# Altium integrated library ST Microprocessor 32-Bit.IntLib: 24 symbols (part 1 of 2)
Pins are listed as number, name and electrical type; pins without a type are passive.

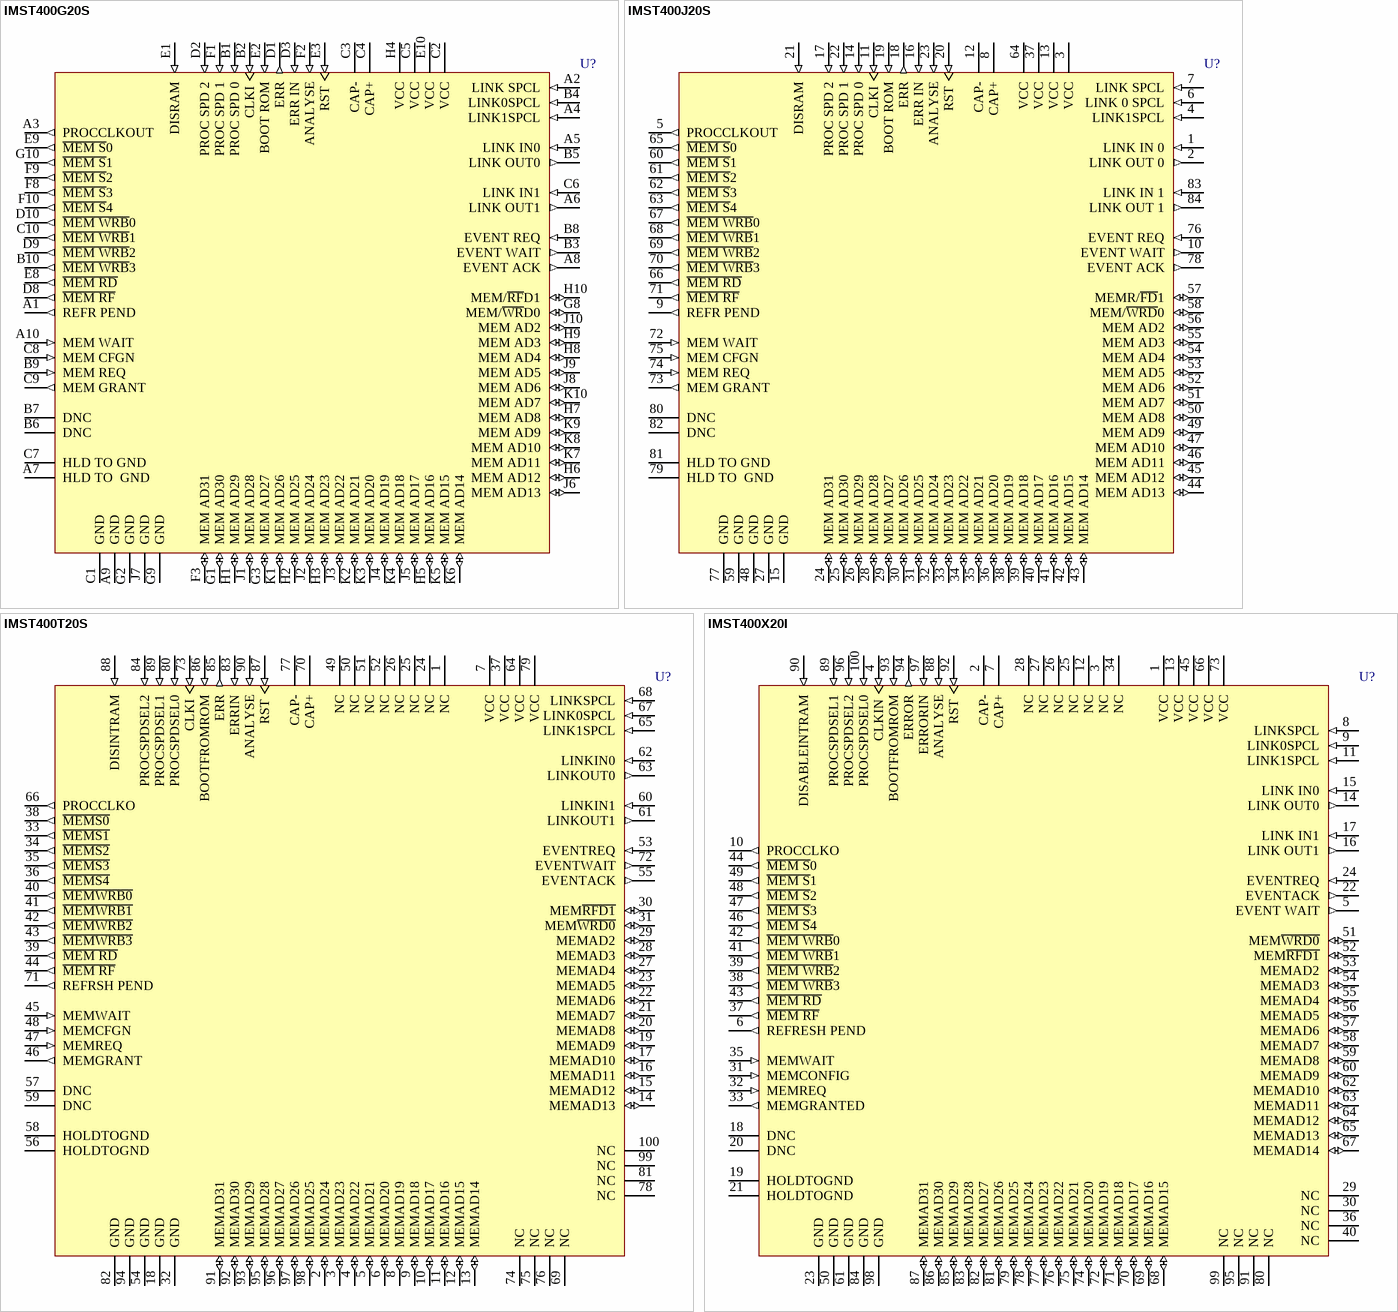
[diagram p0: symbols IMST400G20S to IMST400X20I]

## IMST400G20S
designator U?
Low Cost 32-Bit Transputer; Note: Do Not Connect pins B6 & B7.; Published: 24-Aug-2001; LatestRevisionDate: 06-Jun-2005; LatestRevisionNote: Stylized 3D Model Added.; DatasheetVersion: Jul-1995; PackageVersion: 1994; PackageReference: PGA84; Publisher: Altium Limited; PackageDescription: 84-Pin Pin Grid Array 2.54 mm Pitch; ComponentLink1Description: Manufacturer Link; ComponentLink1URL: http://www.st.com/
footprint PGA84 (PGA, 84-Leads, Body 27x27mm, Pitch 2.54mm)
3D model IMST400-PGA84 (84-Pin Pin Grid Array 2.54 mm Pitch)
pins: A1 REFR PEND (out), A2 LINK SPCL (in), A3 PROCCLKOUT (out), A4 LINK1SPCL (in), A5 LINK IN0 (in), A6 LINK OUT1 (out), A7 HLD TO  GND, A8 EVENT ACK (out), A9 GND (power), A10 MEM WAIT (in), B1 PROC SPD 0 (in), B2 CLKI (in), B3 EVENT WAIT (out), B4 LINK0SPCL (in), B5 LINK OUT0 (out), B6 DNC, B7 DNC, B8 EVENT REQ (in), B9 MEM REQ (in), B10 ~{MEM WRB}3 (out), C1 GND (power), C2 VCC (power), C3 CAP-, C4 CAP+, C5 VCC (power), C6 LINK IN1 (in), C7 HLD TO GND, C8 MEM CFGN (in), C9 MEM GRANT (out), C10 ~{MEM WRB}1 (out), D1 ERR (out), D2 PROC SPD 2 (in), D3 ERR IN (in), D8 ~{MEM RF} (out), D9 ~{MEM WRB}2 (out), D10 ~{MEM WRB}0 (out), E1 DISRAM (in), E2 BOOT ROM (in), E3 RST (in), E8 ~{MEM RD} (out), E9 ~{MEM S}0 (out), E10 VCC (power), F1 PROC SPD 1 (in), F2 ANALYSE (in), F3 MEM AD31 (io), F8 ~{MEM S}3 (out), F9 ~{MEM S}2 (out), F10 ~{MEM S}4 (out), G1 MEM AD30 (io), G2 GND (power), G3 MEM AD27 (io), G8 MEM/~{WR}D0 (io), G9 GND (power), G10 ~{MEM S}1 (out), H1 MEM AD29 (io), H2 MEM AD25 (io), H3 MEM AD23 (io), H4 VCC (power), H5 MEM AD16 (io), H6 MEM AD12 (io), H7 MEM AD8 (io), H8 MEM AD4 (io), H9 MEM AD3 (io), H10 MEM/~{RF}D1 (io), J1 MEM AD28 (io), J2 MEM AD24 (io), J3 MEM AD22 (io), J4 MEM AD19 (io), J5 MEM AD17 (io), J6 MEM AD13 (io), J7 GND (power), J8 MEM AD6 (io), J9 MEM AD5 (io), J10 MEM AD2 (io), K1 MEM AD26 (io), K2 MEM AD21 (io), K3 MEM AD20 (io), K4 MEM AD18 (io), K5 MEM AD15 (io), K6 MEM AD14 (io), K7 MEM AD11 (io), K8 MEM AD10 (io), K9 MEM AD9 (io), K10 MEM AD7 (io)

## IMST400J20S
designator U?
Low Cost 32-Bit Transputer; Note: Do Not Connect pins 80 & 82.; Published: 24-Aug-2001; LatestRevisionDate: 13-Apr-2006; LatestRevisionNote: IPC-7351 Footprint Added.; DatasheetVersion: Jul-1995; PackageReference: PLCC84; Publisher: Altium Limited; PackageDescription: 84-Pin Leaded Chip Carrier 1.27 mm Pitch; ComponentLink1Description: Manufacturer Link; ComponentLink1URL: http://www.st.com/
footprint PLCC84_N (Leaded Chip Carrier, 84-Leads, Body 29.3x29.3mm, Pitch 1.27mm, IPC Medium Density)
footprint PLCC84_L (Leaded Chip Carrier, 84-Leads, Body 29.3x29.3mm, Pitch 1.27mm, IPC High Density)
footprint PLCC84_M (Leaded Chip Carrier, 84-Leads, Body 29.3x29.3mm, Pitch 1.27mm, IPC Low Density)
3D model IMST400-PLCC84 (84-Pin Leaded Chip Carrier 1.27 mm Pitch)
pins: 1 LINK IN 0 (in), 2 LINK OUT 0 (out), 3 VCC (power), 4 LINK1SPCL (in), 5 PROCCLKOUT (out), 6 LINK 0 SPCL (in), 7 LINK SPCL (in), 8 CAP+, 9 REFR PEND (out), 10 EVENT WAIT (out), 11 CLKI (in), 12 CAP-, 13 VCC (power), 14 PROC SPD 0 (in), 15 GND (power), 16 ERR IN (in), 17 PROC SPD 2 (in), 18 ERR (out), 19 BOOT ROM (in), 20 RST (in), 21 DISRAM (in), 22 PROC SPD 1 (in), 23 ANALYSE (in), 24 MEM AD31 (io), 25 MEM AD30 (io), 26 MEM AD29 (io), 27 GND (power), 28 MEM AD28 (io), 29 MEM AD27 (io), 30 MEM AD26 (io), 31 MEM AD25 (io), 32 MEM AD24 (io), 33 MEM AD23 (io), 34 MEM AD22 (io), 35 MEM AD21 (io), 36 MEM AD20 (io), 37 VCC (power), 38 MEM AD19 (io), 39 MEM AD18 (io), 40 MEM AD17 (io), 41 MEM AD16 (io), 42 MEM AD15 (io), 43 MEM AD14 (io), 44 MEM AD13 (io), 45 MEM AD12 (io), 46 MEM AD11 (io), 47 MEM AD10 (io), 48 GND (power), 49 MEM AD9 (io), 50 MEM AD8 (io), 51 MEM AD7 (io), 52 MEM AD6 (io), 53 MEM AD5 (io), 54 MEM AD4 (io), 55 MEM AD3 (io), 56 MEM AD2 (io), 57 MEMR/~{FD}1 (io), 58 MEM/~{WRD}0 (io), 59 GND (power), 60 ~{MEM S}1 (out), 61 ~{MEM S}2 (out), 62 ~{MEM S}3 (out), 63 ~{MEM S}4 (out), 64 VCC (power), 65 ~{MEM S}0 (out), 66 ~{MEM RD} (out), 67 ~{MEM WRB}0 (out), 68 ~{MEM WRB}1 (out), 69 ~{MEM WRB}2 (out), 70 ~{MEM WRB}3 (out), 71 ~{MEM RF} (out), 72 MEM WAIT (in), 73 MEM GRANT (out), 74 MEM REQ (in), 75 MEM CFGN (in), 76 EVENT REQ (in), 77 GND (power), 78 EVENT ACK (out), 79 HLD TO  GND, 80 DNC, 81 HLD TO GND, 82 DNC, 83 LINK IN 1 (in), 84 LINK OUT 1 (out)

## IMST400T20S
designator U?
Low Cost 32-Bit Transputer; Note: Do Not Connect pins 57 & 59.; Published: 24-Aug-2001; LatestRevisionDate: 13-Apr-2006; LatestRevisionNote: IPC-7351 Footprint Added.; DatasheetVersion: Jul-1995; PackageVersion: Dec-2002; PackageReference: TQFP100; Publisher: Altium Limited; PackageDescription: 100-Pin Thin Quad Flat Pack 0.5 mm Pitch; ComponentLink1Description: Manufacturer Link; ComponentLink1URL: http://www.st.com/
footprint TQFP100_N (Thin QFP, 100-Leads, Body 14x14mm, Pitch 0.5mm, IPC Medium Density)
footprint TQFP100_L (Thin QFP, 100-Leads, Body 14x14mm, Pitch 0.5mm, IPC High Density)
footprint TQFP100_M (Thin QFP, 100-Leads, Body 14x14mm, Pitch 0.5mm, IPC Low Density)
3D model IMST400T-TQFP100 (100-Pin Thin Quad Flat Pack 0.5 mm Pitch)
pins: 1 NC, 2 MEMAD24 (io), 3 MEMAD23 (io), 4 MEMAD22 (io), 5 MEMAD21 (io), 6 MEMAD20 (io), 7 VCC (power), 8 MEMAD19 (io), 9 MEMAD18 (io), 10 MEMAD17 (io), 11 MEMAD16 (io), 12 MEMAD15 (io), 13 MEMAD14 (io), 14 MEMAD13 (io), 15 MEMAD12 (io), 16 MEMAD11 (io), 17 MEMAD10 (io), 18 GND (power), 19 MEMAD9 (io), 20 MEMAD8 (io), 21 MEMAD7 (io), 22 MEMAD6 (io), 23 MEMAD5 (io), 24 NC, 25 NC, 26 NC, 27 MEMAD4 (io), 28 MEMAD3 (io), 29 MEMAD2 (io), 30 MEM~{RFD1} (io), 31 MEM~{WRD0} (io), 32 GND (power), 33 ~{MEMS1} (out), 34 ~{MEMS2} (out), 35 ~{MEMS3} (out), 36 ~{MEMS4} (out), 37 VCC (power), 38 ~{MEMS0} (out), 39 ~{MEM RD} (out), 40 ~{MEMWRB0} (out), 41 ~{MEMWRB1} (out), 42 ~{MEMWRB2} (out), 43 ~{MEMWRB3} (out), 44 ~{MEM RF} (out), 45 MEMWAIT (in), 46 MEMGRANT (out), 47 MEMREQ (in), 48 MEMCFGN (in), 49 NC, 50 NC, 51 NC, 52 NC, 53 EVENTREQ (in), 54 GND (power), 55 EVENTACK (out), 56 HOLDTOGND, 57 DNC, 58 HOLDTOGND, 59 DNC, 60 LINKIN1 (in), 61 LINKOUT1 (out), 62 LINKIN0 (in), 63 LINKOUT0 (out), 64 VCC (power), 65 LINK1SPCL (in), 66 PROCCLKO (out), 67 LINK0SPCL (in), 68 LINKSPCL (in), 69 NC, 70 CAP+, 71 REFRSH PEND (out), 72 EVENTWAIT (out), 73 CLKI (in), 74 NC, 75 NC, 76 NC, 77 CAP-, 78 NC, 79 VCC (power), 80 PROCSPDSEL0 (in), 81 NC, 82 GND (power), 83 ERRIN (in), 84 PROCSPDSEL2 (in), 85 ERR (out), 86 BOOTFROMROM (in), 87 RST (in), 88 DISINTRAM (in), 89 PROCSPDSEL1 (in), 90 ANALYSE (in), 91 MEMAD31 (io), 92 MEMAD30 (io), 93 MEMAD29 (io), 94 GND (power), 95 MEMAD28 (io), 96 MEMAD27 (io), 97 MEMAD26 (io), 98 MEMAD25 (io), 99 NC, 100 NC

## IMST400X20I
designator U?
Low Cost 32-Bit Transputer; Note: Do Not Connect pins 18 & 20.; Published: 24-Aug-2001; LatestRevisionDate: 13-Apr-2006; LatestRevisionNote: IPC-7351 Footprint Added.; DatasheetVersion: Jul-1995; PackageVersion: Jun-2003; PackageReference: PQFP100; Publisher: Altium Limited; PackageDescription: 100-Pin Plastic Quad Flat Pack Rectangular 0.65 mm Pitch; Code_IPC: QFP65P1720X2320-100; ComponentLink1Description: Manufacturer Link; ComponentLink1URL: http://www.st.com/
footprint PQFP100_N (QFP, 100-Leads, Body 20x14mm, Pitch 0.65mm, IPC Medium Density)
footprint PQFP100_L (QFP, 100-Leads, Body 20x14mm, Pitch 0.65mm, IPC High Density)
footprint PQFP100_M (QFP, 100-Leads, Body 20x14mm, Pitch 0.65mm, IPC Low Density)
3D model IMST400-PQFP100 (100-Pin Plastic Quad Flat Pack Rectangular 0.65 mm Pitch)
pins: 1 VCC (power), 2 CAP-, 3 NC, 4 CLKIN (in), 5 EVENT WAIT (out), 6 REFRESH PEND (out), 7 CAP+, 8 LINKSPCL (in), 9 LINK0SPCL (in), 10 PROCCLKO (out), 11 LINK1SPCL (in), 12 NC, 13 VCC (power), 14 LINK OUT0 (out), 15 LINK IN0 (in), 16 LINK OUT1 (out), 17 LINK IN1 (in), 18 DNC, 19 HOLDTOGND, 20 DNC, 21 HOLDTOGND, 22 EVENTACK (out), 23 GND (power), 24 EVENTREQ (in), 25 NC, 26 NC, 27 NC, 28 NC, 29 NC, 30 NC, 31 MEMCONFIG (in), 32 MEMREQ (in), 33 MEMGRANTED (out), 34 NC, 35 MEMWAIT (in), 36 NC, 37 ~{MEM RF} (out), 38 ~{MEM WRB}3 (out), 39 ~{MEM WRB}2 (out), 40 NC, 41 ~{MEM WRB}1 (out), 42 ~{MEM WRB}0 (out), 43 ~{MEM RD} (out), 44 ~{MEM S}0 (out), 45 VCC (power), 46 ~{MEM S}4 (out), 47 ~{MEM S}3 (out), 48 ~{MEM S}2 (out), 49 ~{MEM S}1 (out), 50 GND (power), 51 MEM~{WRD0} (io), 52 MEM~{RFD1} (io), 53 MEMAD2 (io), 54 MEMAD3 (io), 55 MEMAD4 (io), 56 MEMAD5 (io), 57 MEMAD6 (io), 58 MEMAD7 (io), 59 MEMAD8 (io), 60 MEMAD9 (io), 61 GND (power), 62 MEMAD10 (io), 63 MEMAD11 (io), 64 MEMAD12 (io), 65 MEMAD13 (io), 66 VCC (power), 67 MEMAD14 (io), 68 MEMAD15 (io), 69 MEMAD16 (io), 70 MEMAD17 (io), 71 MEMAD18 (io), 72 MEMAD19 (io), 73 VCC (power), 74 MEMAD20 (io), 75 MEMAD21 (io), 76 MEMAD22 (io), 77 MEMAD23 (io), 78 MEMAD24 (io), 79 MEMAD25 (io), 80 NC, 81 MEMAD26 (io), 82 MEMAD27 (io), 83 MEMAD28 (io), 84 GND (power), 85 MEMAD29 (io), 86 MEMAD30 (io), 87 MEMAD31 (io), 88 ANALYSE (in), 89 PROCSPDSEL1 (in), 90 DISABLEINTRAM (in), 91 NC, 92 RST (in), 93 BOOTFROMROM (in), 94 ERROR (out), 95 NC, 96 PROCSPDSEL2 (in), 97 ERRORIN (in), 98 GND (power), 99 NC, 100 PROCSPDSEL0 (in)

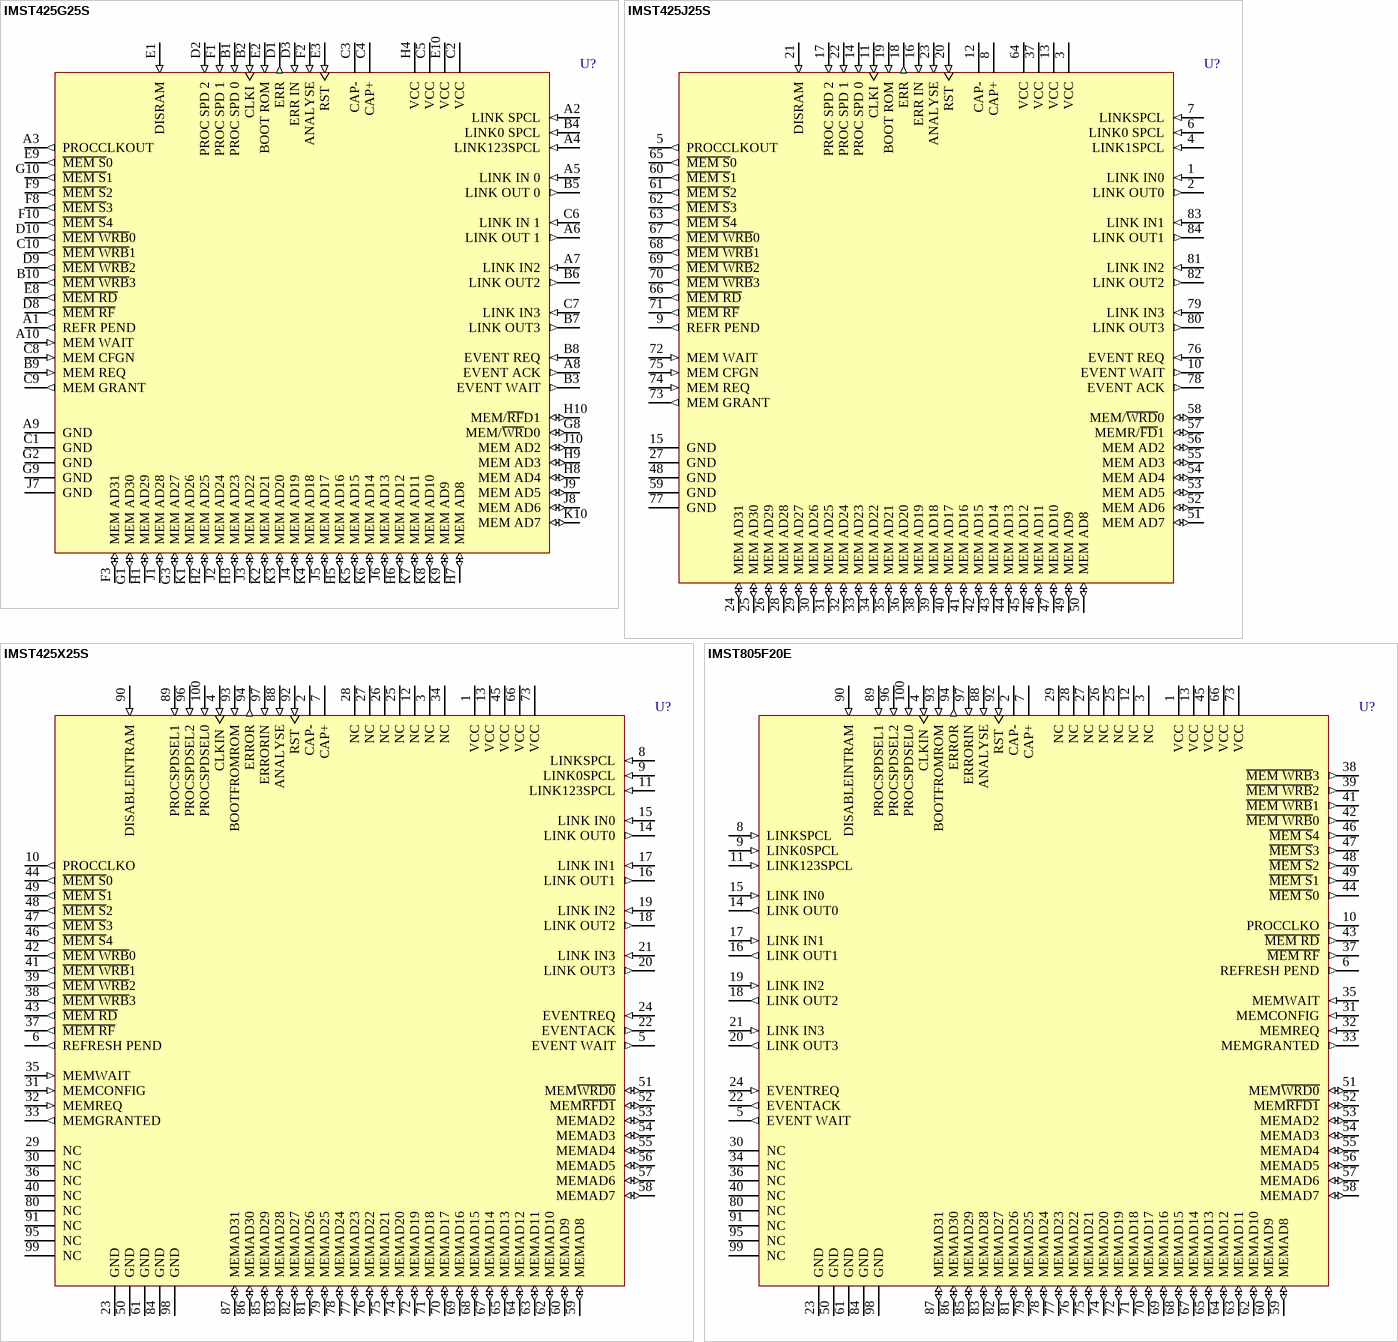
[diagram p1: symbols IMST425G25S to IMST805F20E]

## IMST425G25S
designator U?
32-Bit Transputer; Published: 24-Aug-2001; LatestRevisionDate: 06-Jun-2005; LatestRevisionNote: Stylized 3D Model Added.; DatasheetVersion: Feb-1996; PackageVersion: 1994; PackageReference: PGA84; Publisher: Altium Limited; PackageDescription: 84-Pin Pin Grid Array 2.54 mm Pitch; ComponentLink1Description: Manufacturer Link; ComponentLink1URL: http://www.st.com/
footprint PGA84 (PGA, 84-Leads, Body 27x27mm, Pitch 2.54mm)
3D model IMST425-PGA84 (84-Pin Pin Grid Array 2.54 mm Pitch)
pins: A1 REFR PEND (out), A2 LINK SPCL (in), A3 PROCCLKOUT (out), A4 LINK123SPCL (in), A5 LINK IN 0 (in), A6 LINK OUT 1 (out), A7 LINK IN2 (in), A8 EVENT ACK (out), A9 GND (power), A10 MEM WAIT (in), B1 PROC SPD 0 (in), B2 CLKI (in), B3 EVENT WAIT (out), B4 LINK0 SPCL (in), B5 LINK OUT 0 (out), B6 LINK OUT2 (out), B7 LINK OUT3 (out), B8 EVENT REQ (in), B9 MEM REQ (in), B10 ~{MEM WRB}3 (out), C1 GND (power), C2 VCC (power), C3 CAP-, C4 CAP+, C5 VCC (power), C6 LINK IN 1 (in), C7 LINK IN3 (in), C8 MEM CFGN (in), C9 MEM GRANT (out), C10 ~{MEM WRB}1 (out), D1 ERR (out), D2 PROC SPD 2 (in), D3 ERR IN (in), D8 ~{MEM RF} (out), D9 ~{MEM WRB}2 (out), D10 ~{MEM WRB}0 (out), E1 DISRAM (in), E2 BOOT ROM (in), E3 RST (in), E8 ~{MEM RD} (out), E9 ~{MEM S}0 (out), E10 VCC (power), F1 PROC SPD 1 (in), F2 ANALYSE (in), F3 MEM AD31 (io), F8 ~{MEM S}3 (out), F9 ~{MEM S}2 (out), F10 ~{MEM S}4 (out), G1 MEM AD30 (io), G2 GND (power), G3 MEM AD27 (io), G8 MEM/~{WR}D0 (io), G9 GND (power), G10 ~{MEM S}1 (out), H1 MEM AD29 (io), H2 MEM AD25 (io), H3 MEM AD23 (io), H4 VCC (power), H5 MEM AD16 (io), H6 MEM AD12 (io), H7 MEM AD8 (io), H8 MEM AD4 (io), H9 MEM AD3 (io), H10 MEM/~{RF}D1 (io), J1 MEM AD28 (io), J2 MEM AD24 (io), J3 MEM AD22 (io), J4 MEM AD19 (io), J5 MEM AD17 (io), J6 MEM AD13 (io), J7 GND (power), J8 MEM AD6 (io), J9 MEM AD5 (io), J10 MEM AD2 (io), K1 MEM AD26 (io), K2 MEM AD21 (io), K3 MEM AD20 (io), K4 MEM AD18 (io), K5 MEM AD15 (io), K6 MEM AD14 (io), K7 MEM AD11 (io), K8 MEM AD10 (io), K9 MEM AD9 (io), K10 MEM AD7 (io)

## IMST425J25S
designator U?
32-Bit Transputer; Published: 24-Aug-2001; LatestRevisionDate: 13-Apr-2006; LatestRevisionNote: IPC-7351 Footprint Added.; DatasheetVersion: Feb-1996; PackageReference: PLCC84; Publisher: Altium Limited; PackageDescription: 84-Pin Leaded Chip Carrier 1.27 mm Pitch; ComponentLink1Description: Manufacturer Link; ComponentLink1URL: http://www.st.com/
footprint PLCC84_N (Leaded Chip Carrier, 84-Leads, Body 29.3x29.3mm, Pitch 1.27mm, IPC Medium Density)
footprint PLCC84_L (Leaded Chip Carrier, 84-Leads, Body 29.3x29.3mm, Pitch 1.27mm, IPC High Density)
footprint PLCC84_M (Leaded Chip Carrier, 84-Leads, Body 29.3x29.3mm, Pitch 1.27mm, IPC Low Density)
3D model IMST425-PLCC84 (84-Pin Leaded Chip Carrier 1.27 mm Pitch)
pins: 1 LINK IN0 (in), 2 LINK OUT0 (out), 3 VCC (power), 4 LINK1SPCL (in), 5 PROCCLKOUT (out), 6 LINK0 SPCL (in), 7 LINKSPCL (in), 8 CAP+, 9 REFR PEND (out), 10 EVENT WAIT (out), 11 CLKI (in), 12 CAP-, 13 VCC (power), 14 PROC SPD 0 (in), 15 GND (power), 16 ERR IN (in), 17 PROC SPD 2 (in), 18 ERR (out), 19 BOOT ROM (in), 20 RST (in), 21 DISRAM (in), 22 PROC SPD 1 (in), 23 ANALYSE (in), 24 MEM AD31 (io), 25 MEM AD30 (io), 26 MEM AD29 (io), 27 GND (power), 28 MEM AD28 (io), 29 MEM AD27 (io), 30 MEM AD26 (io), 31 MEM AD25 (io), 32 MEM AD24 (io), 33 MEM AD23 (io), 34 MEM AD22 (io), 35 MEM AD21 (io), 36 MEM AD20 (io), 37 VCC (power), 38 MEM AD19 (io), 39 MEM AD18 (io), 40 MEM AD17 (io), 41 MEM AD16 (io), 42 MEM AD15 (io), 43 MEM AD14 (io), 44 MEM AD13 (io), 45 MEM AD12 (io), 46 MEM AD11 (io), 47 MEM AD10 (io), 48 GND (power), 49 MEM AD9 (io), 50 MEM AD8 (io), 51 MEM AD7 (io), 52 MEM AD6 (io), 53 MEM AD5 (io), 54 MEM AD4 (io), 55 MEM AD3 (io), 56 MEM AD2 (io), 57 MEMR/~{FD}1 (io), 58 MEM/~{WRD}0 (io), 59 GND (power), 60 ~{MEM S}1 (out), 61 ~{MEM S}2 (out), 62 ~{MEM S}3 (out), 63 ~{MEM S}4 (out), 64 VCC (power), 65 ~{MEM S}0 (out), 66 ~{MEM RD} (out), 67 ~{MEM WRB}0 (out), 68 ~{MEM WRB}1 (out), 69 ~{MEM WRB}2 (out), 70 ~{MEM WRB}3 (out), 71 ~{MEM RF} (out), 72 MEM WAIT (in), 73 MEM GRANT (out), 74 MEM REQ (in), 75 MEM CFGN (in), 76 EVENT REQ (in), 77 GND (power), 78 EVENT ACK (out), 79 LINK IN3 (in), 80 LINK OUT3 (out), 81 LINK IN2 (in), 82 LINK OUT2 (out), 83 LINK IN1 (in), 84 LINK OUT1 (out)

## IMST425X25S
designator U?
32-Bit Transputer; Published: 24-Aug-2001; LatestRevisionDate: 13-Apr-2006; LatestRevisionNote: IPC-7351 Footprint Added.; DatasheetVersion: Feb-1996; PackageVersion: Jun-2003; PackageReference: PQFP100; Publisher: Altium Limited; PackageDescription: 100-Pin Plastic Quad Flat Pack Rectangular 0.65 mm Pitch; Code_IPC: QFP65P1720X2320-100; ComponentLink1Description: Manufacturer Link; ComponentLink1URL: http://www.st.com/
footprint PQFP100_N (QFP, 100-Leads, Body 20x14mm, Pitch 0.65mm, IPC Medium Density)
footprint PQFP100_L (QFP, 100-Leads, Body 20x14mm, Pitch 0.65mm, IPC High Density)
footprint PQFP100_M (QFP, 100-Leads, Body 20x14mm, Pitch 0.65mm, IPC Low Density)
3D model IMST425-PQFP100 (100-Pin Plastic Quad Flat Pack Rectangular 0.65 mm Pitch)
pins: 1 VCC (power), 2 CAP-, 3 NC, 4 CLKIN (in), 5 EVENT WAIT (out), 6 REFRESH PEND (out), 7 CAP+, 8 LINKSPCL (in), 9 LINK0SPCL (in), 10 PROCCLKO (out), 11 LINK123SPCL (in), 12 NC, 13 VCC (power), 14 LINK OUT0 (out), 15 LINK IN0 (in), 16 LINK OUT1 (out), 17 LINK IN1 (in), 18 LINK OUT2 (out), 19 LINK IN2 (in), 20 LINK OUT3 (out), 21 LINK IN3 (in), 22 EVENTACK (out), 23 GND (power), 24 EVENTREQ (in), 25 NC, 26 NC, 27 NC, 28 NC, 29 NC, 30 NC, 31 MEMCONFIG (in), 32 MEMREQ (in), 33 MEMGRANTED (out), 34 NC, 35 MEMWAIT (in), 36 NC, 37 ~{MEM RF} (out), 38 ~{MEM WRB}3 (out), 39 ~{MEM WRB}2 (out), 40 NC, 41 ~{MEM WRB}1 (out), 42 ~{MEM WRB}0 (out), 43 ~{MEM RD} (out), 44 ~{MEM S}0 (out), 45 VCC (power), 46 ~{MEM S}4 (out), 47 ~{MEM S}3 (out), 48 ~{MEM S}2 (out), 49 ~{MEM S}1 (out), 50 GND (power), 51 MEM~{WRD0} (io), 52 MEM~{RFD1} (io), 53 MEMAD2 (io), 54 MEMAD3 (io), 55 MEMAD4 (io), 56 MEMAD5 (io), 57 MEMAD6 (io), 58 MEMAD7 (io), 59 MEMAD8 (io), 60 MEMAD9 (io), 61 GND (power), 62 MEMAD10 (io), 63 MEMAD11 (io), 64 MEMAD12 (io), 65 MEMAD13 (io), 66 VCC (power), 67 MEMAD14 (io), 68 MEMAD15 (io), 69 MEMAD16 (io), 70 MEMAD17 (io), 71 MEMAD18 (io), 72 MEMAD19 (io), 73 VCC (power), 74 MEMAD20 (io), 75 MEMAD21 (io), 76 MEMAD22 (io), 77 MEMAD23 (io), 78 MEMAD24 (io), 79 MEMAD25 (io), 80 NC, 81 MEMAD26 (io), 82 MEMAD27 (io), 83 MEMAD28 (io), 84 GND (power), 85 MEMAD29 (io), 86 MEMAD30 (io), 87 MEMAD31 (io), 88 ANALYSE (in), 89 PROCSPDSEL1 (in), 90 DISABLEINTRAM (in), 91 NC, 92 RST (in), 93 BOOTFROMROM (in), 94 ERROR (out), 95 NC, 96 PROCSPDSEL2 (in), 97 ERRORIN (in), 98 GND (power), 99 NC, 100 PROCSPDSEL0 (in)

## IMST805F20E
designator U?
32-Bit Floating-Point Transputer-Extended Temperature; Published: 24-Aug-2001; LatestRevisionDate: 13-Apr-2006; LatestRevisionNote: IPC-7351 Footprint Added.; DatasheetVersion: Feb-1997; PackageVersion: revC, Mar-1993; PackageReference: CQFP100; Publisher: Altium Limited; PackageDescription: 100-Pin Ceramic Quad Flat Pack Rectangular 0.65 mm Pitch; ComponentLink1Description: Manufacturer Link; ComponentLink1URL: http://www.st.com/
footprint CQFP100_N (QFP, 100-Leads, Body 20x14mm, Pitch 0.65mm, IPC Medium Density)
footprint CQFP100_L (QFP, 100-Leads, Body 20x14mm, Pitch 0.65mm, IPC High Density)
footprint CQFP100_M (QFP, 100-Leads, Body 20x14mm, Pitch 0.65mm, IPC Low Density)
3D model IMST805-CQFP100 (100-Pin Ceramic Quad Flat Pack Rectangular 0.65 mm Pitch)
pins: 1 VCC (power), 2 CAP-, 3 NC, 4 CLKIN (in), 5 EVENT WAIT (out), 6 REFRESH PEND (out), 7 CAP+, 8 LINKSPCL (in), 9 LINK0SPCL (in), 10 PROCCLKO (out), 11 LINK123SPCL (in), 12 NC, 13 VCC (power), 14 LINK OUT0 (out), 15 LINK IN0 (in), 16 LINK OUT1 (out), 17 LINK IN1 (in), 18 LINK OUT2 (out), 19 LINK IN2 (in), 20 LINK OUT3 (out), 21 LINK IN3 (in), 22 EVENTACK (out), 23 GND (power), 24 EVENTREQ (in), 25 NC, 26 NC, 27 NC, 28 NC, 29 NC, 30 NC, 31 MEMCONFIG (in), 32 MEMREQ (in), 33 MEMGRANTED (out), 34 NC, 35 MEMWAIT (in), 36 NC, 37 ~{MEM RF} (out), 38 ~{MEM WRB}3 (out), 39 ~{MEM WRB}2 (out), 40 NC, 41 ~{MEM WRB}1 (out), 42 ~{MEM WRB}0 (out), 43 ~{MEM RD} (out), 44 ~{MEM S}0 (out), 45 VCC (power), 46 ~{MEM S}4 (out), 47 ~{MEM S}3 (out), 48 ~{MEM S}2 (out), 49 ~{MEM S}1 (out), 50 GND (power), 51 MEM~{WRD0} (io), 52 MEM~{RFD1} (io), 53 MEMAD2 (io), 54 MEMAD3 (io), 55 MEMAD4 (io), 56 MEMAD5 (io), 57 MEMAD6 (io), 58 MEMAD7 (io), 59 MEMAD8 (io), 60 MEMAD9 (io), 61 GND (power), 62 MEMAD10 (io), 63 MEMAD11 (io), 64 MEMAD12 (io), 65 MEMAD13 (io), 66 VCC (power), 67 MEMAD14 (io), 68 MEMAD15 (io), 69 MEMAD16 (io), 70 MEMAD17 (io), 71 MEMAD18 (io), 72 MEMAD19 (io), 73 VCC (power), 74 MEMAD20 (io), 75 MEMAD21 (io), 76 MEMAD22 (io), 77 MEMAD23 (io), 78 MEMAD24 (io), 79 MEMAD25 (io), 80 NC, 81 MEMAD26 (io), 82 MEMAD27 (io), 83 MEMAD28 (io), 84 GND (power), 85 MEMAD29 (io), 86 MEMAD30 (io), 87 MEMAD31 (io), 88 ANALYSE (in), 89 PROCSPDSEL1 (in), 90 DISABLEINTRAM (in), 91 NC, 92 RST (in), 93 BOOTFROMROM (in), 94 ERROR (out), 95 NC, 96 PROCSPDSEL2 (in), 97 ERRORIN (in), 98 GND (power), 99 NC, 100 PROCSPDSEL0 (in)

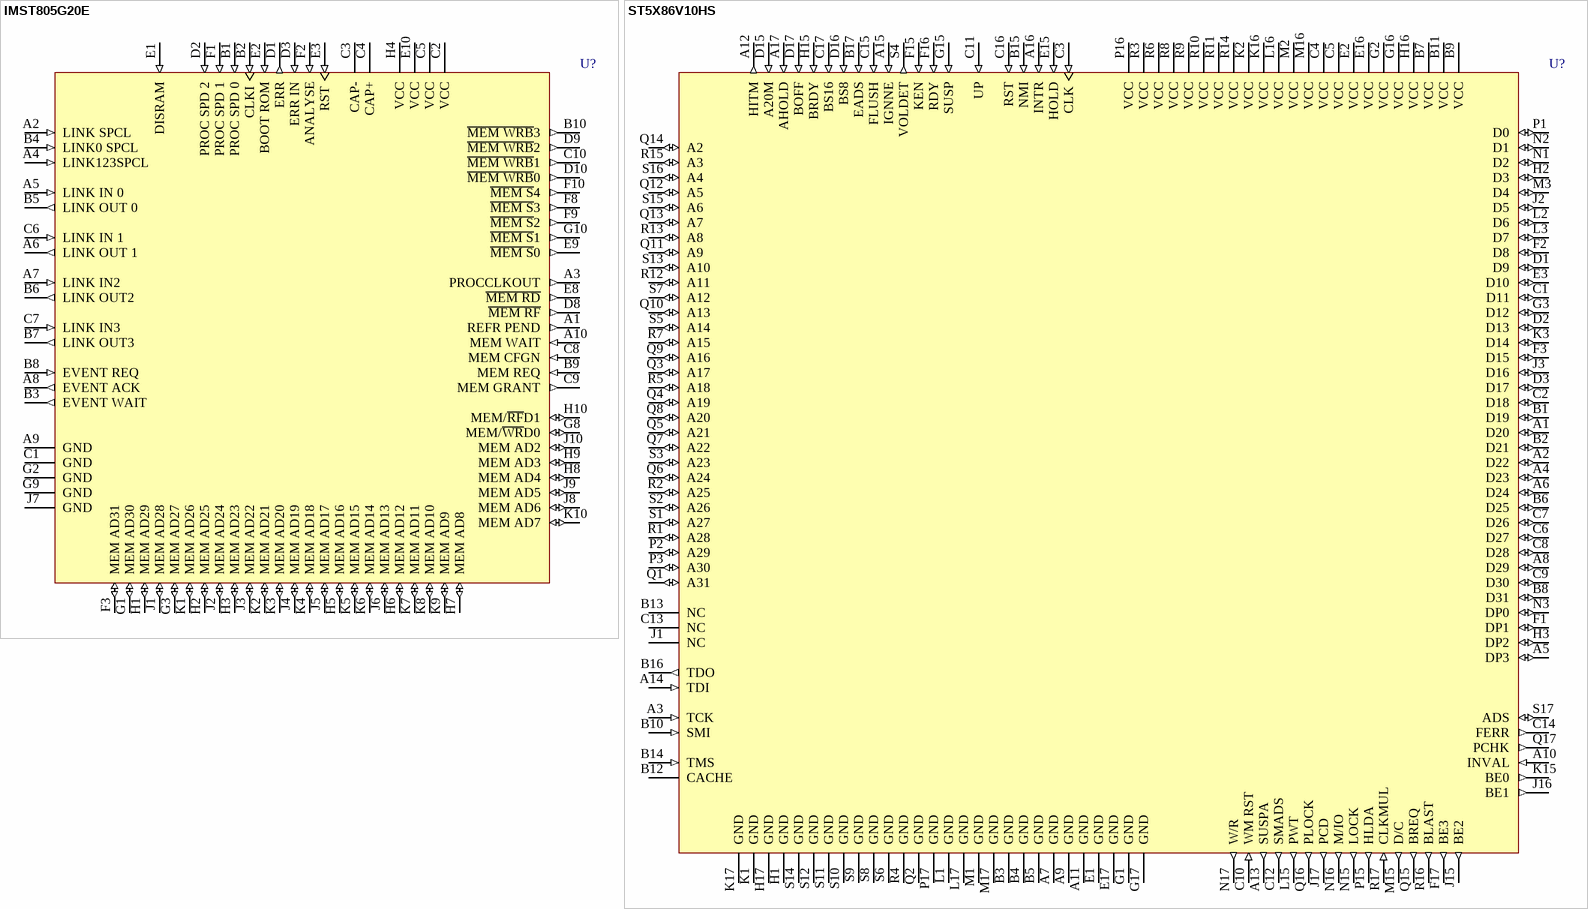
[diagram p2: symbols IMST805G20E to ST5X86V10HS]

## IMST805G20E
designator U?
32-Bit Floating-Point Transputer-Extended Temperature; Published: 24-Aug-2001; LatestRevisionDate: 06-Jun-2005; LatestRevisionNote: Stylized 3D Model Added.; DatasheetVersion: Feb-1997; PackageVersion: 1994; PackageReference: PGA84; Publisher: Altium Limited; PackageDescription: 84-Pin Pin Grid Array 2.54 mm Pitch; ComponentLink1Description: Manufacturer Link; ComponentLink1URL: http://www.st.com/
footprint PGA84 (PGA, 84-Leads, Body 27x27mm, Pitch 2.54mm)
3D model IMST805-PGA84 (84-Pin Pin Grid Array 2.54 mm Pitch)
pins: A1 REFR PEND (out), A2 LINK SPCL (in), A3 PROCCLKOUT (out), A4 LINK123SPCL (in), A5 LINK IN 0 (in), A6 LINK OUT 1 (out), A7 LINK IN2 (in), A8 EVENT ACK (out), A9 GND (power), A10 MEM WAIT (in), B1 PROC SPD 0 (in), B2 CLKI (in), B3 EVENT WAIT (out), B4 LINK0 SPCL (in), B5 LINK OUT 0 (out), B6 LINK OUT2 (out), B7 LINK OUT3 (out), B8 EVENT REQ (in), B9 MEM REQ (in), B10 ~{MEM WRB}3 (out), C1 GND (power), C2 VCC (power), C3 CAP-, C4 CAP+, C5 VCC (power), C6 LINK IN 1 (in), C7 LINK IN3 (in), C8 MEM CFGN (in), C9 MEM GRANT (out), C10 ~{MEM WRB}1 (out), D1 ERR (out), D2 PROC SPD 2 (in), D3 ERR IN (in), D8 ~{MEM RF} (out), D9 ~{MEM WRB}2 (out), D10 ~{MEM WRB}0 (out), E1 DISRAM (in), E2 BOOT ROM (in), E3 RST (in), E8 ~{MEM RD} (out), E9 ~{MEM S}0 (out), E10 VCC (power), F1 PROC SPD 1 (in), F2 ANALYSE (in), F3 MEM AD31 (io), F8 ~{MEM S}3 (out), F9 ~{MEM S}2 (out), F10 ~{MEM S}4 (out), G1 MEM AD30 (io), G2 GND (power), G3 MEM AD27 (io), G8 MEM/~{WR}D0 (io), G9 GND (power), G10 ~{MEM S}1 (out), H1 MEM AD29 (io), H2 MEM AD25 (io), H3 MEM AD23 (io), H4 VCC (power), H5 MEM AD16 (io), H6 MEM AD12 (io), H7 MEM AD8 (io), H8 MEM AD4 (io), H9 MEM AD3 (io), H10 MEM/~{RF}D1 (io), J1 MEM AD28 (io), J2 MEM AD24 (io), J3 MEM AD22 (io), J4 MEM AD19 (io), J5 MEM AD17 (io), J6 MEM AD13 (io), J7 GND (power), J8 MEM AD6 (io), J9 MEM AD5 (io), J10 MEM AD2 (io), K1 MEM AD26 (io), K2 MEM AD21 (io), K3 MEM AD20 (io), K4 MEM AD18 (io), K5 MEM AD15 (io), K6 MEM AD14 (io), K7 MEM AD11 (io), K8 MEM AD10 (io), K9 MEM AD9 (io), K10 MEM AD7 (io)

## ST5X86V10HS
designator U?
100 and 120  MHz 3.45 Volt 5X86 CPU; Published: 24-Aug-2001; LatestRevisionDate: 06-Jun-2005; LatestRevisionNote: Stylized 3D Model Added.; DatasheetVersion: Oct-1995; PackageReference: PGA168; Publisher: Altium Limited; PackageDescription: 168-Pin Pin Grid Array 2.54 mm Pitch; ComponentLink1Description: Manufacturer Link; ComponentLink1URL: http://www.st.com/
footprint PGA168 (PGA, 168-Leads, Body 44.5x44.5mm, Pitch 2.54mm)
3D model ST5X86-PGA168 (168-Pin Pin Grid Array 2.54 mm Pitch)
pins: A1 D20 (io), A2 D22 (io), A3 TCK (in), A4 D23 (io), A5 DP3 (io), A6 D24 (io), A7 GND (power), A8 D29 (io), A9 GND (power), A10 INVAL (in), A11 GND (power), A12 HITM (out), A13 SUSPA (out), A14 TDI (in), A15 IGNNE (in), A16 INTR (in), A17 AHOLD (in), B1 D19 (io), B2 D21 (io), B3 GND (power), B4 GND (power), B5 GND (power), B6 D25 (io), B7 VCC (power), B8 D31 (io), B9 VCC (power), B10 SMI (in), B11 VCC (power), B12 CACHE, B13 NC, B14 TMS (in), B15 NMI (in), B16 TDO (out), B17 EADS (in), C1 D11 (io), C2 D18 (io), C3 CLK (in), C4 VCC (power), C5 VCC (power), C6 D27 (io), C7 D26 (io), C8 D28 (io), C9 D30 (io), C10 WM RST (in), C11 UP (in), C12 SMADS (out), C13 NC, C14 FERR (out), C15 FLUSH (in), C16 RST (in), C17 BS16 (in), D1 D9 (io), D2 D13 (io), D3 D17 (io), D15 A20M (in), D16 BS8 (in), D17 BOFF (in), E1 GND (power), E2 VCC (power), E3 D10 (io), E15 HOLD (in), E16 VCC (power), E17 GND (power), F1 DP1 (io), F2 D8 (io), F3 D15 (io), F15 KEN (in), F16 RDY (in), F17 BE3 (out), G1 GND (power), G2 VCC (power), G3 D12 (io), G15 SUSP (in), G16 VCC (power), G17 GND (power), H1 GND (power), H2 D3 (io), H3 DP2 (io), H15 BRDY (in), H16 VCC (power), H17 GND (power), J1 NC, J2 D5 (io), J3 D16 (io), J15 BE2 (out), J16 BE1 (out), J17 PCD (out), K1 GND (power), K2 VCC (power), K3 D14 (io), K15 BE0 (out), K16 VCC (power), K17 GND (power), L1 GND (power), L2 D6 (io), L3 D7 (io), L15 PWT (out), L16 VCC (power), L17 GND (power), M1 GND (power), M2 VCC (power), M3 D4 (io), M15 D/C (out), M16 VCC (power), M17 GND (power), N1 D2 (io), N2 D1 (io), N3 DP0 (io), N15 LOCK (out), N16 M/IO (out), N17 W/R (out), P1 D0 (io), P2 A29 (io), P3 A30 (io), P15 HLDA (out), P16 VCC (power), P17 GND (power), Q1 A31 (io), Q2 GND (power), Q3 A17 (io), Q4 A19 (io), Q5 A21 (io), Q6 A24 (io), Q7 A22 (io), Q8 A20 (io), Q9 A16 (io), Q10 A13 (io), Q11 A9 (io), Q12 A5 (io), Q13 A7 (io), Q14 A2 (io), Q15 BREQ (out), Q16 PLOCK (out), Q17 PCHK (out), R1 A28 (io), R2 A25 (io), R3 VCC (power), R4 GND (power), R5 A18 (io), R6 VCC (power), R7 A15 (io), R8 VCC (power), R9 VCC (power), R10 VCC (power), R11 VCC (power), R12 A11 (io), R13 A8 (io), R14 VCC (power), R15 A3 (io), R16 BLAST (out), R17 CLKMUL (in), S1 A27 (io), S2 A26 (io), S3 A23 (io), S4 VOLDET (out), S5 A14 (io), S6 GND (power), S7 A12 (io), S8 GND (power), S9 GND (power), S10 GND (power), S11 GND (power), S12 GND (power), S13 A10 (io), S14 GND (power), S15 A6 (io), S16 A4 (io), S17 ADS (io)

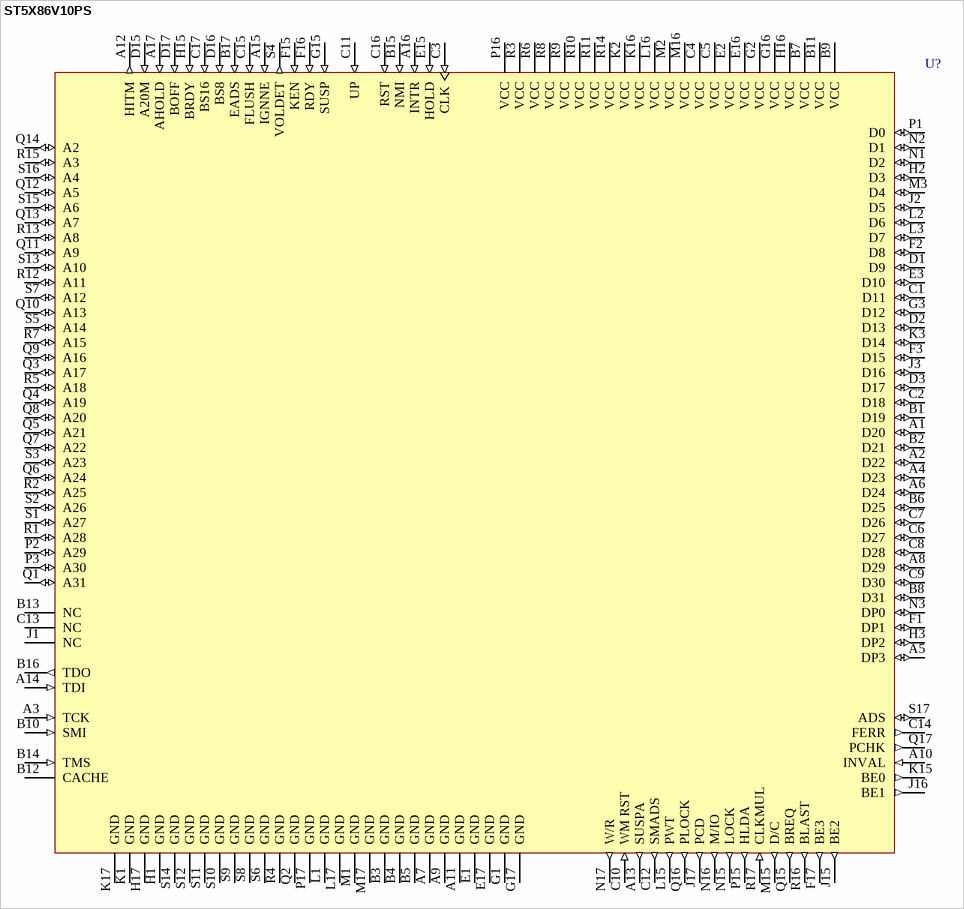
[diagram p3: symbol ST5X86V10PS]

## ST5X86V10PS
designator U?
100 and 120  MHz 3.45 Volt 5X86 CPU; Published: 24-Aug-2001; LatestRevisionDate: 06-Jun-2005; LatestRevisionNote: Stylized 3D Model Added.; DatasheetVersion: Oct-1995; PackageReference: PGA168; Publisher: Altium Limited; PackageDescription: 168-Pin Pin Grid Array 2.54 mm Pitch; ComponentLink1Description: Manufacturer Link; ComponentLink1URL: http://www.st.com/
footprint PGA168 (PGA, 168-Leads, Body 44.5x44.5mm, Pitch 2.54mm)
3D model ST5X86-PGA168 (168-Pin Pin Grid Array 2.54 mm Pitch)
pins: A1 D20 (io), A2 D22 (io), A3 TCK (in), A4 D23 (io), A5 DP3 (io), A6 D24 (io), A7 GND (power), A8 D29 (io), A9 GND (power), A10 INVAL (in), A11 GND (power), A12 HITM (out), A13 SUSPA (out), A14 TDI (in), A15 IGNNE (in), A16 INTR (in), A17 AHOLD (in), B1 D19 (io), B2 D21 (io), B3 GND (power), B4 GND (power), B5 GND (power), B6 D25 (io), B7 VCC (power), B8 D31 (io), B9 VCC (power), B10 SMI (in), B11 VCC (power), B12 CACHE, B13 NC, B14 TMS (in), B15 NMI (in), B16 TDO (out), B17 EADS (in), C1 D11 (io), C2 D18 (io), C3 CLK (in), C4 VCC (power), C5 VCC (power), C6 D27 (io), C7 D26 (io), C8 D28 (io), C9 D30 (io), C10 WM RST (in), C11 UP (in), C12 SMADS (out), C13 NC, C14 FERR (out), C15 FLUSH (in), C16 RST (in), C17 BS16 (in), D1 D9 (io), D2 D13 (io), D3 D17 (io), D15 A20M (in), D16 BS8 (in), D17 BOFF (in), E1 GND (power), E2 VCC (power), E3 D10 (io), E15 HOLD (in), E16 VCC (power), E17 GND (power), F1 DP1 (io), F2 D8 (io), F3 D15 (io), F15 KEN (in), F16 RDY (in), F17 BE3 (out), G1 GND (power), G2 VCC (power), G3 D12 (io), G15 SUSP (in), G16 VCC (power), G17 GND (power), H1 GND (power), H2 D3 (io), H3 DP2 (io), H15 BRDY (in), H16 VCC (power), H17 GND (power), J1 NC, J2 D5 (io), J3 D16 (io), J15 BE2 (out), J16 BE1 (out), J17 PCD (out), K1 GND (power), K2 VCC (power), K3 D14 (io), K15 BE0 (out), K16 VCC (power), K17 GND (power), L1 GND (power), L2 D6 (io), L3 D7 (io), L15 PWT (out), L16 VCC (power), L17 GND (power), M1 GND (power), M2 VCC (power), M3 D4 (io), M15 D/C (out), M16 VCC (power), M17 GND (power), N1 D2 (io), N2 D1 (io), N3 DP0 (io), N15 LOCK (out), N16 M/IO (out), N17 W/R (out), P1 D0 (io), P2 A29 (io), P3 A30 (io), P15 HLDA (out), P16 VCC (power), P17 GND (power), Q1 A31 (io), Q2 GND (power), Q3 A17 (io), Q4 A19 (io), Q5 A21 (io), Q6 A24 (io), Q7 A22 (io), Q8 A20 (io), Q9 A16 (io), Q10 A13 (io), Q11 A9 (io), Q12 A5 (io), Q13 A7 (io), Q14 A2 (io), Q15 BREQ (out), Q16 PLOCK (out), Q17 PCHK (out), R1 A28 (io), R2 A25 (io), R3 VCC (power), R4 GND (power), R5 A18 (io), R6 VCC (power), R7 A15 (io), R8 VCC (power), R9 VCC (power), R10 VCC (power), R11 VCC (power), R12 A11 (io), R13 A8 (io), R14 VCC (power), R15 A3 (io), R16 BLAST (out), R17 CLKMUL (in), S1 A27 (io), S2 A26 (io), S3 A23 (io), S4 VOLDET (out), S5 A14 (io), S6 GND (power), S7 A12 (io), S8 GND (power), S9 GND (power), S10 GND (power), S11 GND (power), S12 GND (power), S13 A10 (io), S14 GND (power), S15 A6 (io), S16 A4 (io), S17 ADS (io)

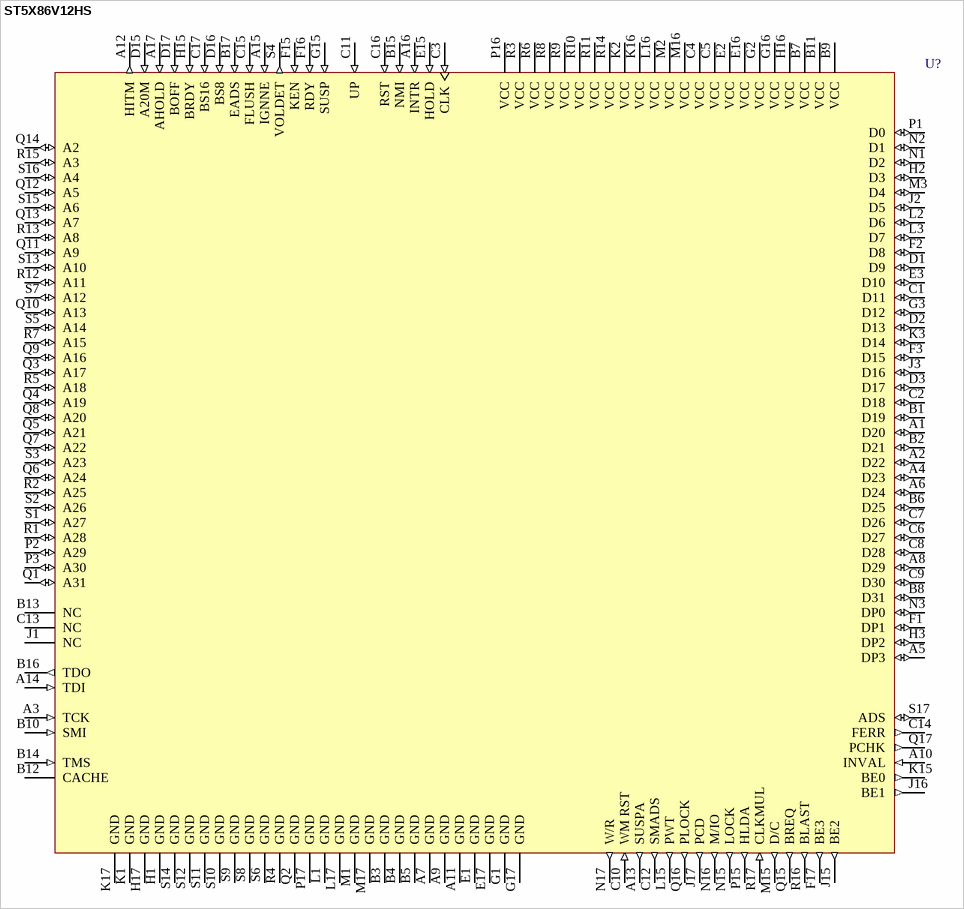
[diagram p4: symbol ST5X86V12HS]

## ST5X86V12HS
designator U?
100 and 120  MHz 3.45 Volt 5X86 CPU; Published: 24-Aug-2001; LatestRevisionDate: 06-Jun-2005; LatestRevisionNote: Stylized 3D Model Added.; DatasheetVersion: Oct-1995; PackageReference: PGA168; Publisher: Altium Limited; PackageDescription: 168-Pin Pin Grid Array 2.54 mm Pitch; ComponentLink1Description: Manufacturer Link; ComponentLink1URL: http://www.st.com/
footprint PGA168 (PGA, 168-Leads, Body 44.5x44.5mm, Pitch 2.54mm)
3D model ST5X86-PGA168 (168-Pin Pin Grid Array 2.54 mm Pitch)
pins: A1 D20 (io), A2 D22 (io), A3 TCK (in), A4 D23 (io), A5 DP3 (io), A6 D24 (io), A7 GND (power), A8 D29 (io), A9 GND (power), A10 INVAL (in), A11 GND (power), A12 HITM (out), A13 SUSPA (out), A14 TDI (in), A15 IGNNE (in), A16 INTR (in), A17 AHOLD (in), B1 D19 (io), B2 D21 (io), B3 GND (power), B4 GND (power), B5 GND (power), B6 D25 (io), B7 VCC (power), B8 D31 (io), B9 VCC (power), B10 SMI (in), B11 VCC (power), B12 CACHE, B13 NC, B14 TMS (in), B15 NMI (in), B16 TDO (out), B17 EADS (in), C1 D11 (io), C2 D18 (io), C3 CLK (in), C4 VCC (power), C5 VCC (power), C6 D27 (io), C7 D26 (io), C8 D28 (io), C9 D30 (io), C10 WM RST (in), C11 UP (in), C12 SMADS (out), C13 NC, C14 FERR (out), C15 FLUSH (in), C16 RST (in), C17 BS16 (in), D1 D9 (io), D2 D13 (io), D3 D17 (io), D15 A20M (in), D16 BS8 (in), D17 BOFF (in), E1 GND (power), E2 VCC (power), E3 D10 (io), E15 HOLD (in), E16 VCC (power), E17 GND (power), F1 DP1 (io), F2 D8 (io), F3 D15 (io), F15 KEN (in), F16 RDY (in), F17 BE3 (out), G1 GND (power), G2 VCC (power), G3 D12 (io), G15 SUSP (in), G16 VCC (power), G17 GND (power), H1 GND (power), H2 D3 (io), H3 DP2 (io), H15 BRDY (in), H16 VCC (power), H17 GND (power), J1 NC, J2 D5 (io), J3 D16 (io), J15 BE2 (out), J16 BE1 (out), J17 PCD (out), K1 GND (power), K2 VCC (power), K3 D14 (io), K15 BE0 (out), K16 VCC (power), K17 GND (power), L1 GND (power), L2 D6 (io), L3 D7 (io), L15 PWT (out), L16 VCC (power), L17 GND (power), M1 GND (power), M2 VCC (power), M3 D4 (io), M15 D/C (out), M16 VCC (power), M17 GND (power), N1 D2 (io), N2 D1 (io), N3 DP0 (io), N15 LOCK (out), N16 M/IO (out), N17 W/R (out), P1 D0 (io), P2 A29 (io), P3 A30 (io), P15 HLDA (out), P16 VCC (power), P17 GND (power), Q1 A31 (io), Q2 GND (power), Q3 A17 (io), Q4 A19 (io), Q5 A21 (io), Q6 A24 (io), Q7 A22 (io), Q8 A20 (io), Q9 A16 (io), Q10 A13 (io), Q11 A9 (io), Q12 A5 (io), Q13 A7 (io), Q14 A2 (io), Q15 BREQ (out), Q16 PLOCK (out), Q17 PCHK (out), R1 A28 (io), R2 A25 (io), R3 VCC (power), R4 GND (power), R5 A18 (io), R6 VCC (power), R7 A15 (io), R8 VCC (power), R9 VCC (power), R10 VCC (power), R11 VCC (power), R12 A11 (io), R13 A8 (io), R14 VCC (power), R15 A3 (io), R16 BLAST (out), R17 CLKMUL (in), S1 A27 (io), S2 A26 (io), S3 A23 (io), S4 VOLDET (out), S5 A14 (io), S6 GND (power), S7 A12 (io), S8 GND (power), S9 GND (power), S10 GND (power), S11 GND (power), S12 GND (power), S13 A10 (io), S14 GND (power), S15 A6 (io), S16 A4 (io), S17 ADS (io)

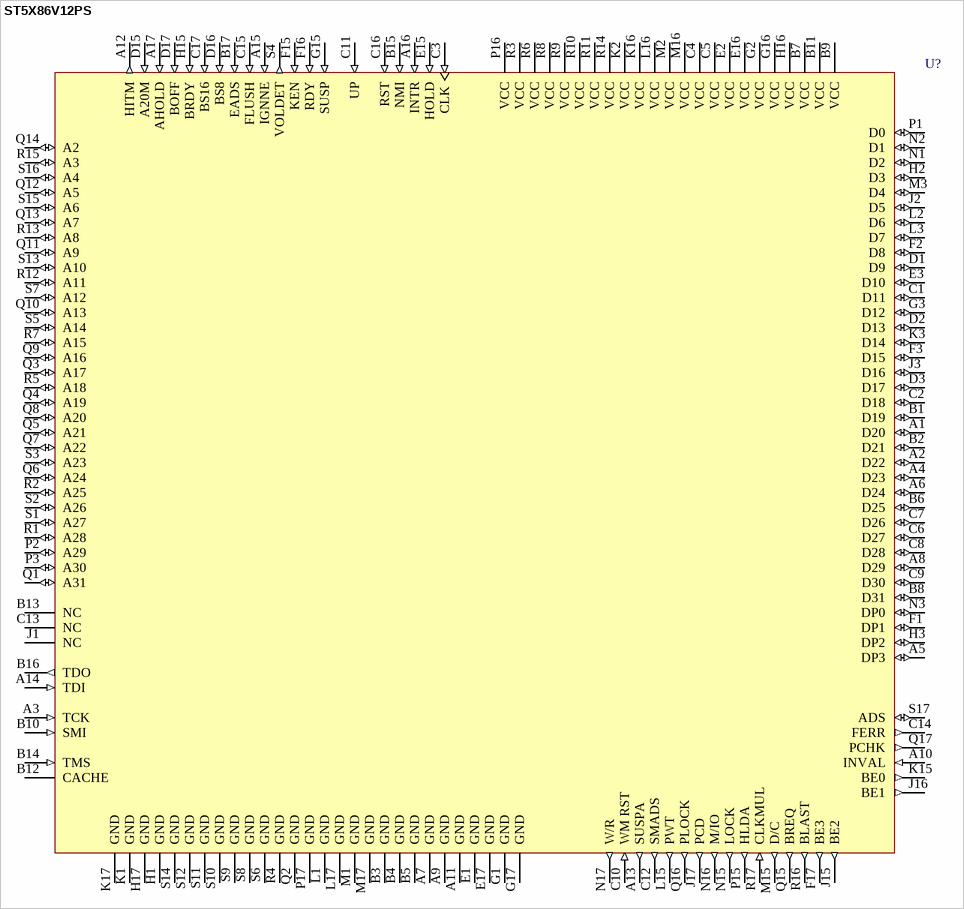
[diagram p5: symbol ST5X86V12PS]

## ST5X86V12PS
designator U?
100 and 120  MHz 3.45 Volt 5X86 CPU; Published: 24-Aug-2001; LatestRevisionDate: 06-Jun-2005; LatestRevisionNote: Stylized 3D Model Added.; DatasheetVersion: Oct-1995; PackageReference: PGA168; Publisher: Altium Limited; PackageDescription: 168-Pin Pin Grid Array 2.54 mm Pitch; ComponentLink1Description: Manufacturer Link; ComponentLink1URL: http://www.st.com/
footprint PGA168 (PGA, 168-Leads, Body 44.5x44.5mm, Pitch 2.54mm)
3D model ST5X86-PGA168 (168-Pin Pin Grid Array 2.54 mm Pitch)
pins: A1 D20 (io), A2 D22 (io), A3 TCK (in), A4 D23 (io), A5 DP3 (io), A6 D24 (io), A7 GND (power), A8 D29 (io), A9 GND (power), A10 INVAL (in), A11 GND (power), A12 HITM (out), A13 SUSPA (out), A14 TDI (in), A15 IGNNE (in), A16 INTR (in), A17 AHOLD (in), B1 D19 (io), B2 D21 (io), B3 GND (power), B4 GND (power), B5 GND (power), B6 D25 (io), B7 VCC (power), B8 D31 (io), B9 VCC (power), B10 SMI (in), B11 VCC (power), B12 CACHE, B13 NC, B14 TMS (in), B15 NMI (in), B16 TDO (out), B17 EADS (in), C1 D11 (io), C2 D18 (io), C3 CLK (in), C4 VCC (power), C5 VCC (power), C6 D27 (io), C7 D26 (io), C8 D28 (io), C9 D30 (io), C10 WM RST (in), C11 UP (in), C12 SMADS (out), C13 NC, C14 FERR (out), C15 FLUSH (in), C16 RST (in), C17 BS16 (in), D1 D9 (io), D2 D13 (io), D3 D17 (io), D15 A20M (in), D16 BS8 (in), D17 BOFF (in), E1 GND (power), E2 VCC (power), E3 D10 (io), E15 HOLD (in), E16 VCC (power), E17 GND (power), F1 DP1 (io), F2 D8 (io), F3 D15 (io), F15 KEN (in), F16 RDY (in), F17 BE3 (out), G1 GND (power), G2 VCC (power), G3 D12 (io), G15 SUSP (in), G16 VCC (power), G17 GND (power), H1 GND (power), H2 D3 (io), H3 DP2 (io), H15 BRDY (in), H16 VCC (power), H17 GND (power), J1 NC, J2 D5 (io), J3 D16 (io), J15 BE2 (out), J16 BE1 (out), J17 PCD (out), K1 GND (power), K2 VCC (power), K3 D14 (io), K15 BE0 (out), K16 VCC (power), K17 GND (power), L1 GND (power), L2 D6 (io), L3 D7 (io), L15 PWT (out), L16 VCC (power), L17 GND (power), M1 GND (power), M2 VCC (power), M3 D4 (io), M15 D/C (out), M16 VCC (power), M17 GND (power), N1 D2 (io), N2 D1 (io), N3 DP0 (io), N15 LOCK (out), N16 M/IO (out), N17 W/R (out), P1 D0 (io), P2 A29 (io), P3 A30 (io), P15 HLDA (out), P16 VCC (power), P17 GND (power), Q1 A31 (io), Q2 GND (power), Q3 A17 (io), Q4 A19 (io), Q5 A21 (io), Q6 A24 (io), Q7 A22 (io), Q8 A20 (io), Q9 A16 (io), Q10 A13 (io), Q11 A9 (io), Q12 A5 (io), Q13 A7 (io), Q14 A2 (io), Q15 BREQ (out), Q16 PLOCK (out), Q17 PCHK (out), R1 A28 (io), R2 A25 (io), R3 VCC (power), R4 GND (power), R5 A18 (io), R6 VCC (power), R7 A15 (io), R8 VCC (power), R9 VCC (power), R10 VCC (power), R11 VCC (power), R12 A11 (io), R13 A8 (io), R14 VCC (power), R15 A3 (io), R16 BLAST (out), R17 CLKMUL (in), S1 A27 (io), S2 A26 (io), S3 A23 (io), S4 VOLDET (out), S5 A14 (io), S6 GND (power), S7 A12 (io), S8 GND (power), S9 GND (power), S10 GND (power), S11 GND (power), S12 GND (power), S13 A10 (io), S14 GND (power), S15 A6 (io), S16 A4 (io), S17 ADS (io)

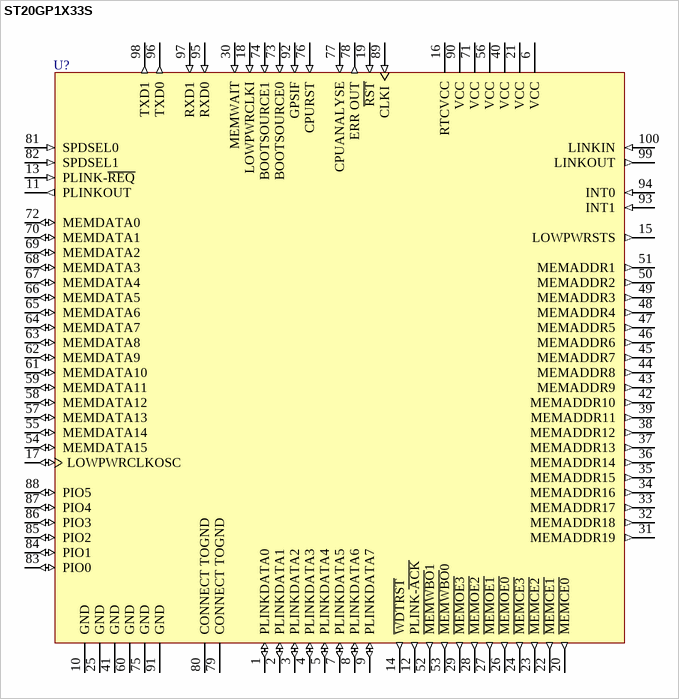
[diagram p6: symbol ST20GP1X33S]

## ST20GP1X33S
designator U?
GPS Processor; Published: 24-Aug-2001; LatestRevisionDate: 13-Apr-2006; LatestRevisionNote: IPC-7351 Footprint Added.; DatasheetVersion: Oct-1996; PackageVersion: Jun-2003; PackageReference: PQFP100; Publisher: Altium Limited; PackageDescription: 100-Pin Plastic Quad Flat Pack Rectangular 0.65 mm Pitch; Code_IPC: QFP65P1720X2320-100; ComponentLink1Description: Manufacturer Link; ComponentLink1URL: http://www.st.com/
footprint PQFP100_N (QFP, 100-Leads, Body 20x14mm, Pitch 0.65mm, IPC Medium Density)
footprint PQFP100_L (QFP, 100-Leads, Body 20x14mm, Pitch 0.65mm, IPC High Density)
footprint PQFP100_M (QFP, 100-Leads, Body 20x14mm, Pitch 0.65mm, IPC Low Density)
3D model ST20GP1-PQFP100 (100-Pin Plastic Quad Flat Pack Rectangular 0.65 mm Pitch)
pins: 1 PLINKDATA0 (io), 2 PLINKDATA1 (io), 3 PLINKDATA2 (io), 4 PLINKDATA3 (io), 5 PLINKDATA4 (io), 6 VCC (power), 7 PLINKDATA5 (io), 8 PLINKDATA6 (io), 9 PLINKDATA7 (io), 10 GND (power), 11 PLINKOUT (out), 12 PLINK-~{ACK} (out), 13 PLINK-~{REQ} (in), 14 ~{WDTRST} (out), 15 LOWPWRSTS (out), 16 RTCVCC (power), 17 LOWPWRCLKOSC (io), 18 LOWPWRCLKI (in), 19 ~{RST} (in), 20 ~{MEMCE0} (out), 21 VCC (power), 22 ~{MEMCE1} (out), 23 ~{MEMCE2} (out), 24 ~{MEMCE3} (out), 25 GND (power), 26 ~{MEMOE0} (out), 27 ~{MEMOE1} (out), 28 ~{MEMOE2} (out), 29 ~{MEMOE3} (out), 30 MEMWAIT (in), 31 MEMADDR19 (out), 32 MEMADDR18 (out), 33 MEMADDR17 (out), 34 MEMADDR16 (out), 35 MEMADDR15 (out), 36 MEMADDR14 (out), 37 MEMADDR13 (out), 38 MEMADDR12 (out), 39 MEMADDR11 (out), 40 VCC (power), 41 GND (power), 42 MEMADDR10 (out), 43 MEMADDR9 (out), 44 MEMADDR8 (out), 45 MEMADDR7 (out), 46 MEMADDR6 (out), 47 MEMADDR5 (out), 48 MEMADDR4 (out), 49 MEMADDR3 (out), 50 MEMADDR2 (out), 51 MEMADDR1 (out), 52 ~{MEMWBO}1 (out), 53 ~{MEMWBO}0 (out), 54 MEMDATA15 (io), 55 MEMDATA14 (io), 56 VCC (power), 57 MEMDATA13 (io), 58 MEMDATA12 (io), 59 MEMDATA11 (io), 60 GND (power), 61 MEMDATA10 (io), 62 MEMDATA9 (io), 63 MEMDATA8 (io), 64 MEMDATA7 (io), 65 MEMDATA6 (io), 66 MEMDATA5 (io), 67 MEMDATA4 (io), 68 MEMDATA3 (io), 69 MEMDATA2 (io), 70 MEMDATA1 (io), 71 VCC (power), 72 MEMDATA0 (io), 73 BOOTSOURCE0 (in), 74 BOOTSOURCE1 (in), 75 GND (power), 76 CPURST (in), 77 CPUANALYSE (in), 78 ERR OUT (out), 79 CONNECT TOGND, 80 CONNECT TOGND, 81 SPDSEL0 (in), 82 SPDSEL1 (in), 83 PIO0 (io), 84 PIO1 (io), 85 PIO2 (io), 86 PIO3 (io), 87 PIO4 (io), 88 PIO5 (io), 89 CLKI (in), 90 VCC (power), 91 GND (power), 92 GPSIF (in), 93 INT1 (in), 94 INT0 (in), 95 RXD0 (in), 96 TXD0 (out), 97 RXD1 (in), 98 TXD1 (out), 99 LINKOUT (out), 100 LINKIN (in)

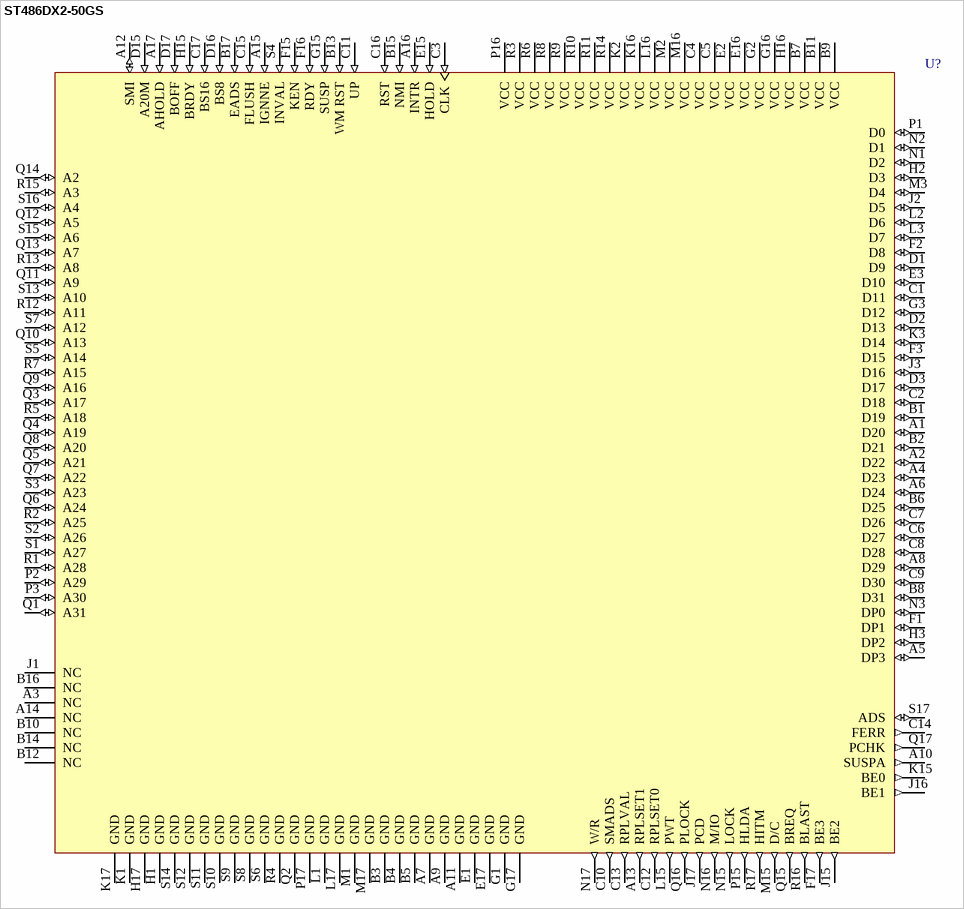
[diagram p7: symbol ST486DX2-50GS]

## ST486DX2-50GS
designator U?
5 Volt Central Processing Unit; Published: 24-Aug-2001; LatestRevisionDate: 06-Jun-2005; LatestRevisionNote: Stylized 3D Model Added.; DatasheetVersion: 1995; PackageReference: PGA168; Publisher: Altium Limited; PackageDescription: 168-Pin Pin Grid Array 2.54 mm Pitch; ComponentLink1Description: Manufacturer Link; ComponentLink1URL: http://www.st.com/
footprint PGA168 (PGA, 168-Leads, Body 44.5x44.5mm, Pitch 2.54mm)
3D model ST486DX2-PGA168 (168-Pin Pin Grid Array 2.54 mm Pitch)
pins: A1 D20 (io), A2 D22 (io), A3 NC, A4 D23 (io), A5 DP3 (io), A6 D24 (io), A7 GND (power), A8 D29 (io), A9 GND (power), A10 SUSPA (out), A11 GND (power), A12 SMI (io), A13 RPLSET1 (out), A14 NC, A15 IGNNE (in), A16 INTR (in), A17 AHOLD (in), B1 D19 (io), B2 D21 (io), B3 GND (power), B4 GND (power), B5 GND (power), B6 D25 (io), B7 VCC (power), B8 D31 (io), B9 VCC (power), B10 NC, B11 VCC (power), B12 NC, B13 WM RST (in), B14 NC, B15 NMI (in), B16 NC, B17 EADS (in), C1 D11 (io), C2 D18 (io), C3 CLK (in), C4 VCC (power), C5 VCC (power), C6 D27 (io), C7 D26 (io), C8 D28 (io), C9 D30 (io), C10 SMADS (out), C11 UP (in), C12 RPLSET0 (out), C13 RPLVAL (out), C14 FERR (out), C15 FLUSH (in), C16 RST (in), C17 BS16 (in), D1 D9 (io), D2 D13 (io), D3 D17 (io), D15 A20M (in), D16 BS8 (in), D17 BOFF (in), E1 GND (power), E2 VCC (power), E3 D10 (io), E15 HOLD (in), E16 VCC (power), E17 GND (power), F1 DP1 (io), F2 D8 (io), F3 D15 (io), F15 KEN (in), F16 RDY (in), F17 BE3 (out), G1 GND (power), G2 VCC (power), G3 D12 (io), G15 SUSP (in), G16 VCC (power), G17 GND (power), H1 GND (power), H2 D3 (io), H3 DP2 (io), H15 BRDY (in), H16 VCC (power), H17 GND (power), J1 NC, J2 D5 (io), J3 D16 (io), J15 BE2 (out), J16 BE1 (out), J17 PCD (out), K1 GND (power), K2 VCC (power), K3 D14 (io), K15 BE0 (out), K16 VCC (power), K17 GND (power), L1 GND (power), L2 D6 (io), L3 D7 (io), L15 PWT (out), L16 VCC (power), L17 GND (power), M1 GND (power), M2 VCC (power), M3 D4 (io), M15 D/C (out), M16 VCC (power), M17 GND (power), N1 D2 (io), N2 D1 (io), N3 DP0 (io), N15 LOCK (out), N16 M/IO (out), N17 W/R (out), P1 D0 (io), P2 A29 (io), P3 A30 (io), P15 HLDA (out), P16 VCC (power), P17 GND (power), Q1 A31 (io), Q2 GND (power), Q3 A17 (io), Q4 A19 (io), Q5 A21 (io), Q6 A24 (io), Q7 A22 (io), Q8 A20 (io), Q9 A16 (io), Q10 A13 (io), Q11 A9 (io), Q12 A5 (io), Q13 A7 (io), Q14 A2 (io), Q15 BREQ (out), Q16 PLOCK (out), Q17 PCHK (out), R1 A28 (io), R2 A25 (io), R3 VCC (power), R4 GND (power), R5 A18 (io), R6 VCC (power), R7 A15 (io), R8 VCC (power), R9 VCC (power), R10 VCC (power), R11 VCC (power), R12 A11 (io), R13 A8 (io), R14 VCC (power), R15 A3 (io), R16 BLAST (out), R17 HITM (out), S1 A27 (io), S2 A26 (io), S3 A23 (io), S4 INVAL (in), S5 A14 (io), S6 GND (power), S7 A12 (io), S8 GND (power), S9 GND (power), S10 GND (power), S11 GND (power), S12 GND (power), S13 A10 (io), S14 GND (power), S15 A6 (io), S16 A4 (io), S17 ADS (io)

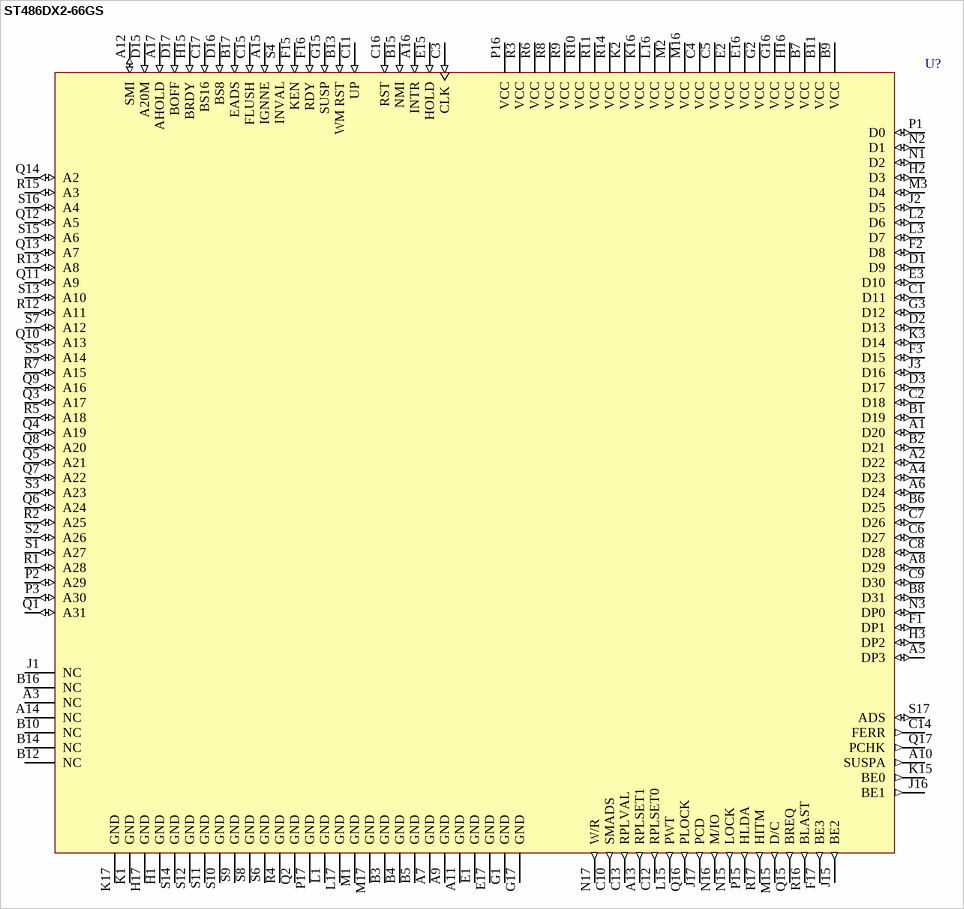
[diagram p8: symbol ST486DX2-66GS]

## ST486DX2-66GS
designator U?
5 Volt Central Processing Unit; Published: 24-Aug-2001; LatestRevisionDate: 06-Jun-2005; LatestRevisionNote: Stylized 3D Model Added.; DatasheetVersion: 1995; PackageReference: PGA168; Publisher: Altium Limited; PackageDescription: 168-Pin Pin Grid Array 2.54 mm Pitch; ComponentLink1Description: Manufacturer Link; ComponentLink1URL: http://www.st.com/
footprint PGA168 (PGA, 168-Leads, Body 44.5x44.5mm, Pitch 2.54mm)
3D model ST486DX2-PGA168 (168-Pin Pin Grid Array 2.54 mm Pitch)
pins: A1 D20 (io), A2 D22 (io), A3 NC, A4 D23 (io), A5 DP3 (io), A6 D24 (io), A7 GND (power), A8 D29 (io), A9 GND (power), A10 SUSPA (out), A11 GND (power), A12 SMI (io), A13 RPLSET1 (out), A14 NC, A15 IGNNE (in), A16 INTR (in), A17 AHOLD (in), B1 D19 (io), B2 D21 (io), B3 GND (power), B4 GND (power), B5 GND (power), B6 D25 (io), B7 VCC (power), B8 D31 (io), B9 VCC (power), B10 NC, B11 VCC (power), B12 NC, B13 WM RST (in), B14 NC, B15 NMI (in), B16 NC, B17 EADS (in), C1 D11 (io), C2 D18 (io), C3 CLK (in), C4 VCC (power), C5 VCC (power), C6 D27 (io), C7 D26 (io), C8 D28 (io), C9 D30 (io), C10 SMADS (out), C11 UP (in), C12 RPLSET0 (out), C13 RPLVAL (out), C14 FERR (out), C15 FLUSH (in), C16 RST (in), C17 BS16 (in), D1 D9 (io), D2 D13 (io), D3 D17 (io), D15 A20M (in), D16 BS8 (in), D17 BOFF (in), E1 GND (power), E2 VCC (power), E3 D10 (io), E15 HOLD (in), E16 VCC (power), E17 GND (power), F1 DP1 (io), F2 D8 (io), F3 D15 (io), F15 KEN (in), F16 RDY (in), F17 BE3 (out), G1 GND (power), G2 VCC (power), G3 D12 (io), G15 SUSP (in), G16 VCC (power), G17 GND (power), H1 GND (power), H2 D3 (io), H3 DP2 (io), H15 BRDY (in), H16 VCC (power), H17 GND (power), J1 NC, J2 D5 (io), J3 D16 (io), J15 BE2 (out), J16 BE1 (out), J17 PCD (out), K1 GND (power), K2 VCC (power), K3 D14 (io), K15 BE0 (out), K16 VCC (power), K17 GND (power), L1 GND (power), L2 D6 (io), L3 D7 (io), L15 PWT (out), L16 VCC (power), L17 GND (power), M1 GND (power), M2 VCC (power), M3 D4 (io), M15 D/C (out), M16 VCC (power), M17 GND (power), N1 D2 (io), N2 D1 (io), N3 DP0 (io), N15 LOCK (out), N16 M/IO (out), N17 W/R (out), P1 D0 (io), P2 A29 (io), P3 A30 (io), P15 HLDA (out), P16 VCC (power), P17 GND (power), Q1 A31 (io), Q2 GND (power), Q3 A17 (io), Q4 A19 (io), Q5 A21 (io), Q6 A24 (io), Q7 A22 (io), Q8 A20 (io), Q9 A16 (io), Q10 A13 (io), Q11 A9 (io), Q12 A5 (io), Q13 A7 (io), Q14 A2 (io), Q15 BREQ (out), Q16 PLOCK (out), Q17 PCHK (out), R1 A28 (io), R2 A25 (io), R3 VCC (power), R4 GND (power), R5 A18 (io), R6 VCC (power), R7 A15 (io), R8 VCC (power), R9 VCC (power), R10 VCC (power), R11 VCC (power), R12 A11 (io), R13 A8 (io), R14 VCC (power), R15 A3 (io), R16 BLAST (out), R17 HITM (out), S1 A27 (io), S2 A26 (io), S3 A23 (io), S4 INVAL (in), S5 A14 (io), S6 GND (power), S7 A12 (io), S8 GND (power), S9 GND (power), S10 GND (power), S11 GND (power), S12 GND (power), S13 A10 (io), S14 GND (power), S15 A6 (io), S16 A4 (io), S17 ADS (io)

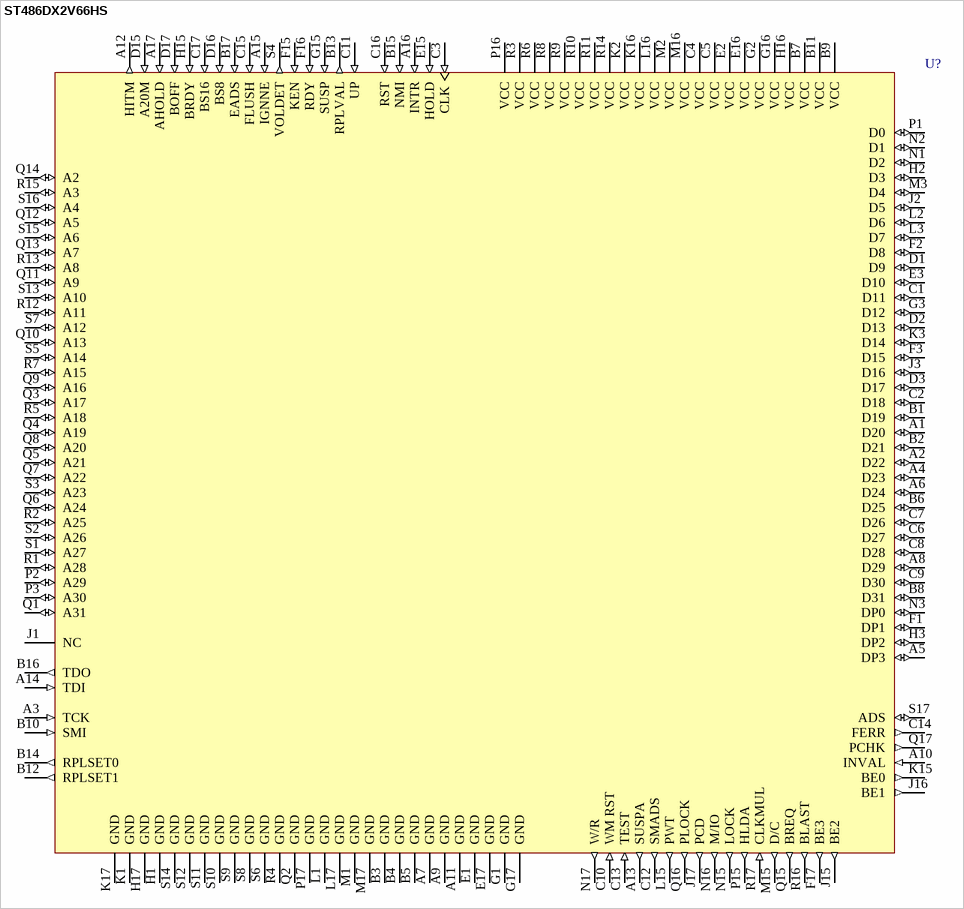
[diagram p9: symbol ST486DX2V66HS]

## ST486DX2V66HS
designator U?
66 and 80 MHz Clock Doubled 486 CPU; Published: 24-Aug-2001; LatestRevisionDate: 06-Jun-2005; LatestRevisionNote: Stylized 3D Model Added.; DatasheetVersion: Oct-1995; PackageReference: PGA168; Publisher: Altium Limited; PackageDescription: 168-Pin Pin Grid Array 2.54 mm Pitch; ComponentLink1Description: Manufacturer Link; ComponentLink1URL: http://www.st.com/
footprint PGA168 (PGA, 168-Leads, Body 44.5x44.5mm, Pitch 2.54mm)
3D model ST486DX2V-PGA168 (168-Pin Pin Grid Array 2.54 mm Pitch)
pins: A1 D20 (io), A2 D22 (io), A3 TCK (in), A4 D23 (io), A5 DP3 (io), A6 D24 (io), A7 GND (power), A8 D29 (io), A9 GND (power), A10 INVAL (in), A11 GND (power), A12 HITM (out), A13 SUSPA (out), A14 TDI (in), A15 IGNNE (in), A16 INTR (in), A17 AHOLD (in), B1 D19 (io), B2 D21 (io), B3 GND (power), B4 GND (power), B5 GND (power), B6 D25 (io), B7 VCC (power), B8 D31 (io), B9 VCC (power), B10 SMI (in), B11 VCC (power), B12 RPLSET1 (out), B13 RPLVAL (out), B14 RPLSET0 (out), B15 NMI (in), B16 TDO (out), B17 EADS (in), C1 D11 (io), C2 D18 (io), C3 CLK (in), C4 VCC (power), C5 VCC (power), C6 D27 (io), C7 D26 (io), C8 D28 (io), C9 D30 (io), C10 WM RST (in), C11 UP (in), C12 SMADS (out), C13 TEST (in), C14 FERR (out), C15 FLUSH (in), C16 RST (in), C17 BS16 (in), D1 D9 (io), D2 D13 (io), D3 D17 (io), D15 A20M (in), D16 BS8 (in), D17 BOFF (in), E1 GND (power), E2 VCC (power), E3 D10 (io), E15 HOLD (in), E16 VCC (power), E17 GND (power), F1 DP1 (io), F2 D8 (io), F3 D15 (io), F15 KEN (in), F16 RDY (in), F17 BE3 (out), G1 GND (power), G2 VCC (power), G3 D12 (io), G15 SUSP (in), G16 VCC (power), G17 GND (power), H1 GND (power), H2 D3 (io), H3 DP2 (io), H15 BRDY (in), H16 VCC (power), H17 GND (power), J1 NC, J2 D5 (io), J3 D16 (io), J15 BE2 (out), J16 BE1 (out), J17 PCD (out), K1 GND (power), K2 VCC (power), K3 D14 (io), K15 BE0 (out), K16 VCC (power), K17 GND (power), L1 GND (power), L2 D6 (io), L3 D7 (io), L15 PWT (out), L16 VCC (power), L17 GND (power), M1 GND (power), M2 VCC (power), M3 D4 (io), M15 D/C (out), M16 VCC (power), M17 GND (power), N1 D2 (io), N2 D1 (io), N3 DP0 (io), N15 LOCK (out), N16 M/IO (out), N17 W/R (out), P1 D0 (io), P2 A29 (io), P3 A30 (io), P15 HLDA (out), P16 VCC (power), P17 GND (power), Q1 A31 (io), Q2 GND (power), Q3 A17 (io), Q4 A19 (io), Q5 A21 (io), Q6 A24 (io), Q7 A22 (io), Q8 A20 (io), Q9 A16 (io), Q10 A13 (io), Q11 A9 (io), Q12 A5 (io), Q13 A7 (io), Q14 A2 (io), Q15 BREQ (out), Q16 PLOCK (out), Q17 PCHK (out), R1 A28 (io), R2 A25 (io), R3 VCC (power), R4 GND (power), R5 A18 (io), R6 VCC (power), R7 A15 (io), R8 VCC (power), R9 VCC (power), R10 VCC (power), R11 VCC (power), R12 A11 (io), R13 A8 (io), R14 VCC (power), R15 A3 (io), R16 BLAST (out), R17 CLKMUL (in), S1 A27 (io), S2 A26 (io), S3 A23 (io), S4 VOLDET (out), S5 A14 (io), S6 GND (power), S7 A12 (io), S8 GND (power), S9 GND (power), S10 GND (power), S11 GND (power), S12 GND (power), S13 A10 (io), S14 GND (power), S15 A6 (io), S16 A4 (io), S17 ADS (io)

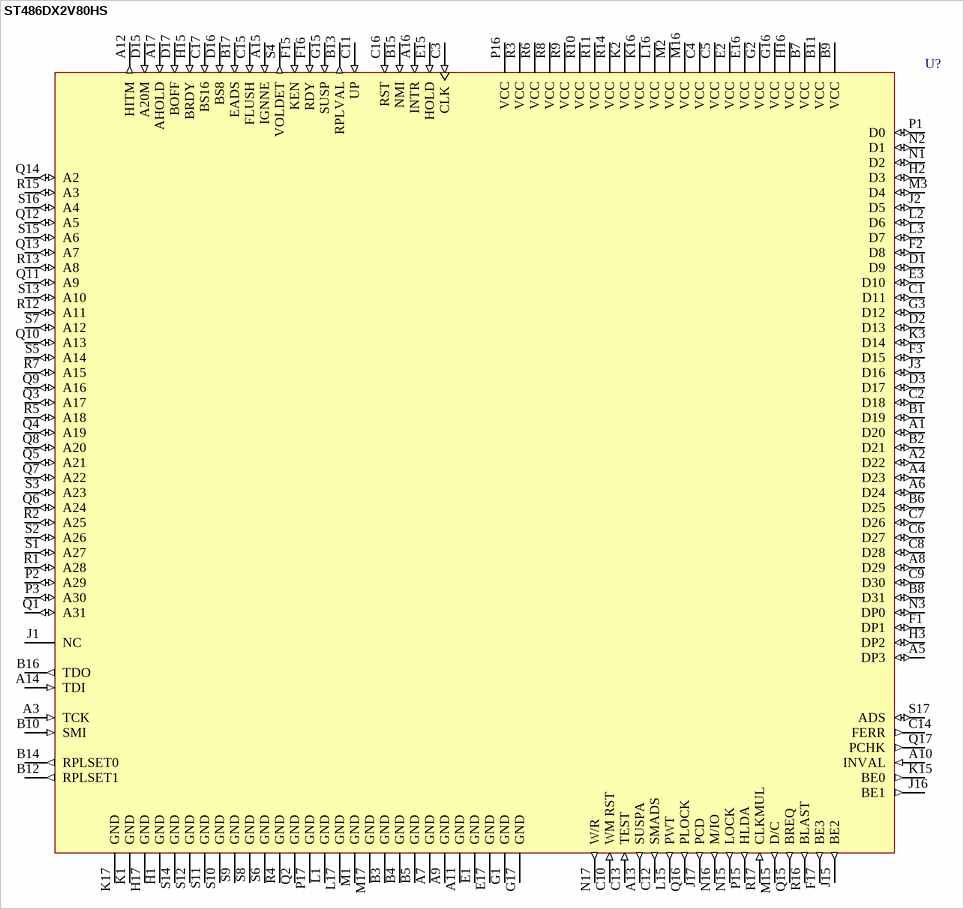
[diagram p10: symbol ST486DX2V80HS]

## ST486DX2V80HS
designator U?
66 and 80 MHz Clock Doubled 486 CPU; Published: 24-Aug-2001; LatestRevisionDate: 06-Jun-2005; LatestRevisionNote: Stylized 3D Model Added.; DatasheetVersion: Oct-1995; PackageReference: PGA168; Publisher: Altium Limited; PackageDescription: 168-Pin Pin Grid Array 2.54 mm Pitch; ComponentLink1Description: Manufacturer Link; ComponentLink1URL: http://www.st.com/
footprint PGA168 (PGA, 168-Leads, Body 44.5x44.5mm, Pitch 2.54mm)
3D model ST486DX2V-PGA168 (168-Pin Pin Grid Array 2.54 mm Pitch)
pins: A1 D20 (io), A2 D22 (io), A3 TCK (in), A4 D23 (io), A5 DP3 (io), A6 D24 (io), A7 GND (power), A8 D29 (io), A9 GND (power), A10 INVAL (in), A11 GND (power), A12 HITM (out), A13 SUSPA (out), A14 TDI (in), A15 IGNNE (in), A16 INTR (in), A17 AHOLD (in), B1 D19 (io), B2 D21 (io), B3 GND (power), B4 GND (power), B5 GND (power), B6 D25 (io), B7 VCC (power), B8 D31 (io), B9 VCC (power), B10 SMI (in), B11 VCC (power), B12 RPLSET1 (out), B13 RPLVAL (out), B14 RPLSET0 (out), B15 NMI (in), B16 TDO (out), B17 EADS (in), C1 D11 (io), C2 D18 (io), C3 CLK (in), C4 VCC (power), C5 VCC (power), C6 D27 (io), C7 D26 (io), C8 D28 (io), C9 D30 (io), C10 WM RST (in), C11 UP (in), C12 SMADS (out), C13 TEST (in), C14 FERR (out), C15 FLUSH (in), C16 RST (in), C17 BS16 (in), D1 D9 (io), D2 D13 (io), D3 D17 (io), D15 A20M (in), D16 BS8 (in), D17 BOFF (in), E1 GND (power), E2 VCC (power), E3 D10 (io), E15 HOLD (in), E16 VCC (power), E17 GND (power), F1 DP1 (io), F2 D8 (io), F3 D15 (io), F15 KEN (in), F16 RDY (in), F17 BE3 (out), G1 GND (power), G2 VCC (power), G3 D12 (io), G15 SUSP (in), G16 VCC (power), G17 GND (power), H1 GND (power), H2 D3 (io), H3 DP2 (io), H15 BRDY (in), H16 VCC (power), H17 GND (power), J1 NC, J2 D5 (io), J3 D16 (io), J15 BE2 (out), J16 BE1 (out), J17 PCD (out), K1 GND (power), K2 VCC (power), K3 D14 (io), K15 BE0 (out), K16 VCC (power), K17 GND (power), L1 GND (power), L2 D6 (io), L3 D7 (io), L15 PWT (out), L16 VCC (power), L17 GND (power), M1 GND (power), M2 VCC (power), M3 D4 (io), M15 D/C (out), M16 VCC (power), M17 GND (power), N1 D2 (io), N2 D1 (io), N3 DP0 (io), N15 LOCK (out), N16 M/IO (out), N17 W/R (out), P1 D0 (io), P2 A29 (io), P3 A30 (io), P15 HLDA (out), P16 VCC (power), P17 GND (power), Q1 A31 (io), Q2 GND (power), Q3 A17 (io), Q4 A19 (io), Q5 A21 (io), Q6 A24 (io), Q7 A22 (io), Q8 A20 (io), Q9 A16 (io), Q10 A13 (io), Q11 A9 (io), Q12 A5 (io), Q13 A7 (io), Q14 A2 (io), Q15 BREQ (out), Q16 PLOCK (out), Q17 PCHK (out), R1 A28 (io), R2 A25 (io), R3 VCC (power), R4 GND (power), R5 A18 (io), R6 VCC (power), R7 A15 (io), R8 VCC (power), R9 VCC (power), R10 VCC (power), R11 VCC (power), R12 A11 (io), R13 A8 (io), R14 VCC (power), R15 A3 (io), R16 BLAST (out), R17 CLKMUL (in), S1 A27 (io), S2 A26 (io), S3 A23 (io), S4 VOLDET (out), S5 A14 (io), S6 GND (power), S7 A12 (io), S8 GND (power), S9 GND (power), S10 GND (power), S11 GND (power), S12 GND (power), S13 A10 (io), S14 GND (power), S15 A6 (io), S16 A4 (io), S17 ADS (io)

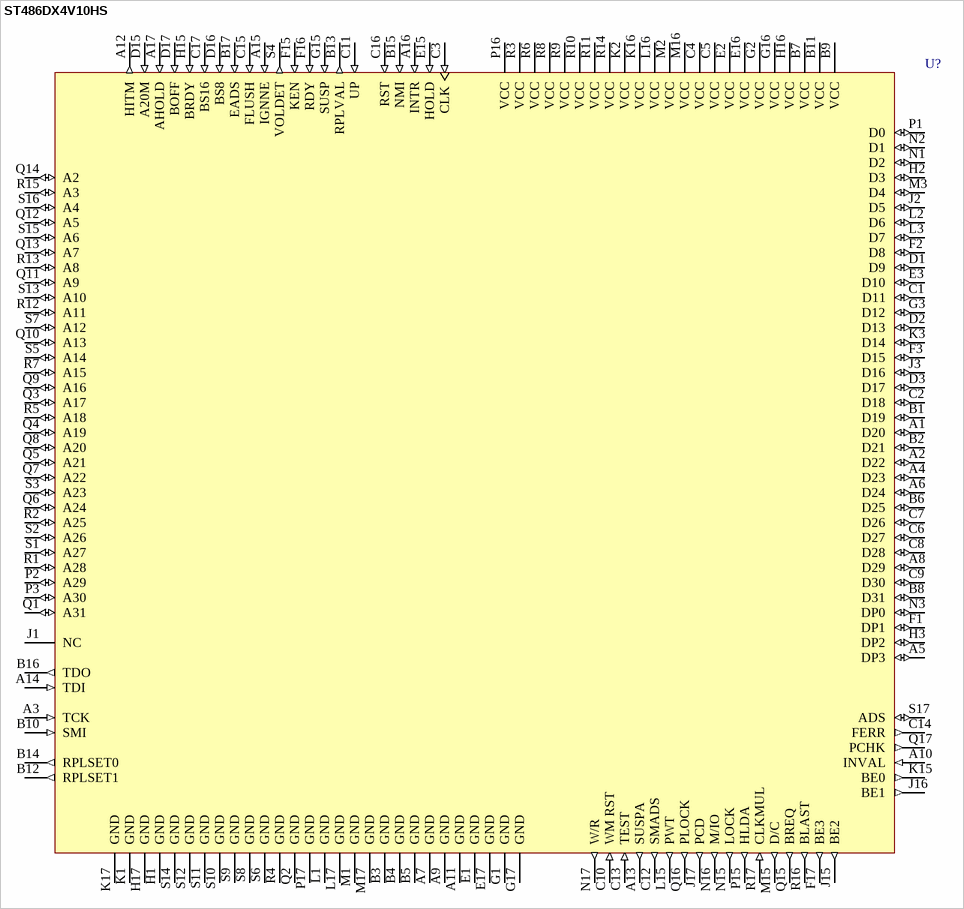
[diagram p11: symbol ST486DX4V10HS]